# Altium schematic symbol library FPGA_Xilinx_Virtex5.SchLib: 41 symbols (part 10 of 17)
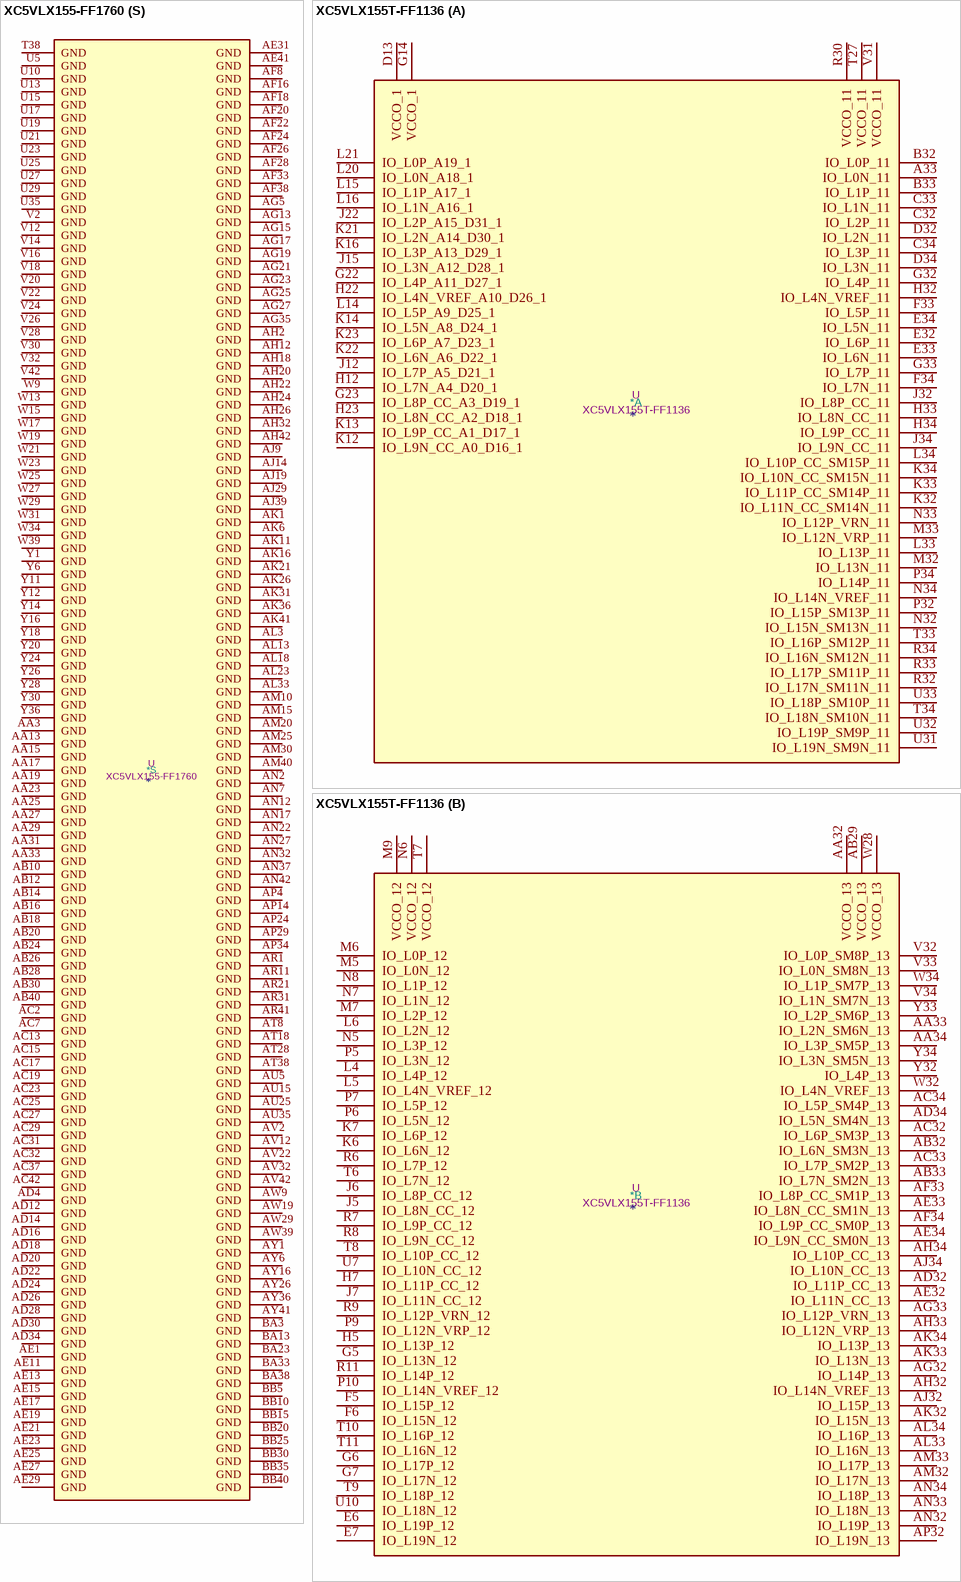
[diagram p146: symbols XC5VLX155-FF1760 to XC5VLX155T-FF1136]

## XC5VLX155-FF1760
designator *  value XC5VLX155-FF1760  Reference: U
Virtex 5 LX 155 XC5VLX155-FF1760; ki_keywords: FPGA; Description_: Virtex 5 LX 155 XC5VLX155-FF1760
part A pins: AA37 IO_L11N_CC_SM14N_11, AA39 IO_L9N_CC_11, AA40 IO_L9P_CC_11, AA41 IO_L19N_SM9N_11, AA42 IO_L19P_SM9P_11, E16 VCCO_1, F41 IO_L1P_11, F42 IO_L0P_11, G41 IO_L1N_11, G42 IO_L0N_11, H41 IO_L2P_11, J14 VCCO_1, J41 IO_L2N_11, J42 IO_L3P_11, K42 IO_L3N_11, L40 IO_L4P_11, L41 IO_L4N_VREF_11, L42 IO_L5P_11, M13 IO_L1P_A17_1, M29 IO_L6N_A6_D22_1, M41 IO_L5N_11, M42 IO_L6P_11, N13 IO_L1N_A16_1, N14 IO_L7P_A5_D21_1, N15 IO_L5P_A9_D25_1, N28 IO_L4P_A11_D27_1, N29 IO_L6P_A7_D23_1, N30 IO_L8N_CC_A2_D18_1, N40 IO_L7P_11, N41 IO_L6N_11, P13 IO_L7N_A4_D20_1, P15 IO_L5N_A8_D24_1, P16 IO_L9P_CC_A1_D17_1, P17 IO_L3P_A13_D29_1, P26 IO_L2N_A14_D30_1, P27 IO_L2P_A15_D31_1, P28 IO_L4N_VREF_A10_D26_1, P30 IO_L8P_CC_A3_D19_1, P40 IO_L7N_11, P41 IO_L13P_11, P42 IO_L12N_VRP_11, R15 IO_L9N_CC_A0_D16_1, R17 IO_L3N_A12_D28_1, R27 IO_L0N_A18_1, R28 IO_L0P_A19_1, R40 IO_L13N_11, R42 IO_L12P_VRN_11, T40 IO_L14P_11, T41 IO_L14N_VREF_11, T42 IO_L15P_SM13P_11, U40 VCCO_11, U41 IO_L15N_SM13N_11, U42 IO_L16P_SM12P_11, V37 VCCO_11, V40 IO_L17P_SM11P_11, V41 IO_L16N_SM12N_11, W40 IO_L8P_CC_11, W41 IO_L17N_SM11N_11, W42 IO_L18P_SM10P_11, Y37 IO_L11P_CC_SM14P_11, Y38 IO_L10N_CC_SM15N_11, Y39 IO_L10P_CC_SM15P_11, Y40 IO_L8N_CC_11, Y41 VCCO_11, Y42 IO_L18N_SM10N_11
part B pins: AA1 IO_L18P_12, AA2 IO_L18N_12, AA4 IO_L16P_12, AA5 IO_L17N_12, AA8 VCCO_12, AA38 VCCO_13, AB5 VCCO_12, AB35 VCCO_13, AB37 IO_L8P_CC_SM1P_13, AB38 IO_L8N_CC_SM1N_13, AB39 IO_L9P_CC_SM0P_13, AB41 IO_L0P_SM8P_13, AB42 IO_L0N_SM8N_13, AC38 IO_L9N_CC_SM0N_13, AC39 IO_L11N_CC_13, AC40 IO_L11P_CC_13, AC41 IO_L1P_SM7P_13, AD39 VCCO_13, AD40 IO_L10N_CC_13, AD41 IO_L2N_SM6N_13, AD42 IO_L1N_SM7N_13, AE40 IO_L10P_CC_13, AE42 IO_L2P_SM6P_13, AF40 IO_L4P_13, AF41 IO_L3P_SM5P_13, AF42 IO_L3N_SM5N_13, AG41 IO_L4N_VREF_13, AG42 IO_L5P_SM4P_13, AH40 IO_L7P_SM2P_13, AH41 IO_L5N_SM4N_13, AJ40 IO_L7N_SM2N_13, AJ41 IO_L6N_SM3N_13, AJ42 IO_L6P_SM3P_13, AK40 IO_L12P_VRN_13, AK42 IO_L13N_13, AL40 IO_L12N_VRP_13, AL41 IO_L13P_13, AL42 IO_L14P_13, AM41 IO_L15P_13, AM42 IO_L14N_VREF_13, AN41 IO_L15N_13, AP41 IO_L16N_13, AP42 IO_L16P_13, AR42 IO_L17P_13, AT41 IO_L18P_13, AT42 IO_L17N_13, AU41 IO_L18N_13, AU42 IO_L19P_13, AV41 IO_L19N_13, E2 IO_L0P_12, F1 IO_L1N_12, F2 IO_L0N_12, G1 IO_L3P_12, G2 IO_L1P_12, H1 IO_L3N_12, J1 IO_L2N_12, J2 IO_L2P_12, K2 IO_L5P_12, L1 IO_L5N_12, L2 IO_L4P_12, M1 IO_L6P_12, M2 IO_L4N_VREF_12, M3 IO_L7P_12, N1 IO_L6N_12, N3 IO_L7N_12, P1 IO_L9N_CC_12, P2 IO_L9P_CC_12, P3 IO_L8P_CC_12, R2 IO_L10P_CC_12, R3 IO_L8N_CC_12, T1 IO_L11N_CC_12, T2 IO_L10N_CC_12, U1 IO_L11P_CC_12, U2 IO_L12N_VRP_12, U3 IO_L12P_VRN_12, V1 IO_L15N_12, V3 IO_L13P_12, V4 IO_L13N_12, W1 IO_L15P_12, W2 IO_L14P_12, W3 IO_L14N_VREF_12, W4 VCCO_12, Y2 IO_L19P_12, Y3 IO_L19N_12, Y4 IO_L16N_12, Y5 IO_L17P_12
part C pins: AA34 IO_L17P_15, AA35 IO_L16P_15, AA36 IO_L16N_15, AB1 IO_L5N_14, AB2 IO_L5P_14, AB3 IO_L3P_14, AB4 IO_L3N_14, AB6 IO_L0P_14, AC1 IO_L6P_14, AC3 IO_L2P_14, AC4 IO_L1P_14, AC5 IO_L1N_14, AC6 IO_L0N_14, AD1 IO_L6N_14, AD2 IO_L4P_14, AD3 IO_L2N_14, AD9 VCCO_14, AE2 IO_L7P_14, AE3 IO_L4N_VREF_14, AE6 VCCO_14, AF1 IO_L7N_14, AF2 IO_L8P_CC_14, AG1 IO_L11N_CC_14, AG2 IO_L8N_CC_14, AG3 IO_L9P_CC_14, AG10 VCCO_14, AH1 IO_L11P_CC_14, AH3 IO_L9N_CC_14, AJ1 IO_L13N_14, AJ2 IO_L10P_CC_14, AJ3 IO_L10N_CC_14, AK2 IO_L13P_14, AK3 IO_L12N_VRP_14, AL1 IO_L15N_14, AL2 IO_L12P_VRN_14, AM1 IO_L15P_14, AM2 IO_L14N_VREF_14, AM3 IO_L14P_14, AN1 IO_L17N_14, AP1 IO_L17P_14, AP2 IO_L16N_14, AR2 IO_L16P_14, AT1 IO_L18P_14, AT2 IO_L18N_14, AU1 IO_L19N_14, AU2 IO_L19P_14, E39 IO_L3P_15, E40 IO_L3N_15, F39 IO_L2P_15, F40 IO_L2N_15, G38 IO_L1P_15, G39 IO_L1N_15, H38 IO_L0P_15, H39 IO_L0N_15, H40 IO_L10P_CC_15, J38 IO_L9N_CC_15, J40 IO_L10N_CC_15, K38 IO_L9P_CC_15, K39 IO_L11N_CC_15, K40 IO_L11P_CC_15, L39 IO_L8N_CC_15, M35 VCCO_15, M38 IO_L8P_CC_15, M39 IO_L7N_15, N38 IO_L6N_15, N39 IO_L7P_15, P37 IO_L5N_15, P38 IO_L6P_15, P39 VCCO_15, R36 VCCO_15, R37 IO_L5P_15, R38 IO_L4N_VREF_15, R39 IO_L4P_15, T37 IO_L13P_15, T39 IO_L14P_15, U37 IO_L12N_VRP_15, U38 IO_L13N_15, U39 IO_L14N_VREF_15, V38 IO_L12P_VRN_15, V39 IO_L15P_15, W35 IO_L18N_15, W36 IO_L19P_15, W37 IO_L19N_15, W38 IO_L15N_15, Y34 IO_L17N_15, Y35 IO_L18P_15
part D pins: AA6 IO_L15N_16, AA7 IO_L15P_16, AA9 IO_L16N_16, AA10 IO_L19N_16, AA11 IO_L19P_16, AB34 IO_L0P_17, AB36 IO_L1N_17, AC34 IO_L0N_17, AC35 IO_L1P_17, AC36 IO_L2P_17, AD35 IO_L2N_17, AD36 IO_L3P_17, AD37 IO_L3N_17, AD38 IO_L4N_VREF_17, AE36 VCCO_17, AE37 IO_L4P_17, AE38 IO_L5N_17, AE39 IO_L5P_17, AF37 IO_L7N_17, AF39 IO_L6P_17, AG37 IO_L7P_17, AG38 IO_L6N_17, AG39 IO_L12P_VRN_17, AG40 VCCO_17, AH37 VCCO_17, AH38 IO_L15N_17, AH39 IO_L12N_VRP_17, AJ37 IO_L15P_17, AJ38 IO_L13P_17, AK37 IO_L14N_VREF_17, AK38 IO_L14P_17, AK39 IO_L13N_17, AL37 IO_L19N_17, AL39 IO_L16P_17, AM37 IO_L19P_17, AM38 IO_L18N_17, AM39 IO_L16N_17, AN38 IO_L18P_17, AN39 IO_L17P_17, AN40 IO_L8P_CC_17, AP38 IO_L17N_17, AP40 IO_L8N_CC_17, AR39 IO_L11N_CC_17, AR40 IO_L9P_CC_17, AT39 IO_L11P_CC_17, AT40 IO_L9N_CC_17, AU39 IO_L10N_CC_17, AV40 IO_L10P_CC_17, E3 IO_L1P_16, E4 IO_L1N_16, F4 IO_L0N_16, G3 IO_L3N_16, G4 IO_L0P_16, H3 IO_L3P_16, H4 IO_L2P_16, J3 IO_L2N_16, K3 IO_L5P_16, K4 IO_L5N_16, L4 IO_L4N_VREF_16, L5 IO_L4P_16, M4 IO_L7N_16, N4 IO_L7P_16, N5 IO_L6P_16, P5 IO_L6N_16, R4 IO_L9N_CC_16, R5 IO_L9P_CC_16, R6 VCCO_16, T3 VCCO_16, T4 IO_L10N_CC_16, T5 IO_L8N_CC_16, T6 IO_L8P_CC_16, U4 IO_L10P_CC_16, U6 IO_L11P_CC_16, V5 IO_L11N_CC_16, V6 IO_L13N_16, V7 VCCO_16, W5 IO_L13P_16, W6 IO_L14N_VREF_16, W7 IO_L12P_VRN_16, W8 IO_L12N_VRP_16, W10 IO_L18N_16, W11 IO_L18P_16, Y7 IO_L14P_16, Y8 IO_L16P_16, Y9 IO_L17N_16, Y10 IO_L17P_16
part E pins: AA32 IO_L19N_19, AB7 IO_L4N_VREF_18, AB8 IO_L3P_18, AB9 IO_L3N_18, AB11 IO_L0P_18, AC8 IO_L4P_18, AC9 IO_L2N_18, AC10 IO_L2P_18, AC11 IO_L0N_18, AD5 IO_L5P_18, AD6 IO_L6P_18, AD7 IO_L7P_18, AD8 IO_L7N_18, AD10 IO_L1N_18, AD11 IO_L1P_18, AE4 IO_L8P_CC_18, AE5 IO_L5N_18, AE7 IO_L6N_18, AF3 VCCO_18, AF4 IO_L8N_CC_18, AF5 IO_L9N_CC_18, AF6 IO_L9P_CC_18, AG4 IO_L11N_CC_18, AG6 IO_L10P_CC_18, AH4 IO_L11P_CC_18, AH5 IO_L13N_18, AH6 IO_L10N_CC_18, AH7 VCCO_18, AJ4 VCCO_18, AJ5 IO_L12P_VRN_18, AJ6 IO_L13P_18, AK4 IO_L12N_VRP_18, AK5 IO_L15P_18, AL4 IO_L15N_18, AL5 IO_L14N_VREF_18, AL6 IO_L14P_18, AM4 IO_L17N_18, AM6 IO_L19P_18, AN3 IO_L16N_18, AN4 IO_L17P_18, AN5 IO_L19N_18, AP3 IO_L16P_18, AR3 IO_L18P_18, AR4 IO_L18N_18, D37 IO_L15N_19, E37 IO_L14N_VREF_19, E38 IO_L15P_19, F36 IO_L13P_19, F37 IO_L14P_19, G36 IO_L13N_19, G37 IO_L12N_VRP_19, H35 IO_L6P_19, H36 IO_L12P_VRN_19, H37 VCCO_19, J35 IO_L5N_19, J36 IO_L6N_19, J37 IO_L7N_19, K35 IO_L5P_19, K37 IO_L7P_19, K41 VCCO_19, L35 IO_L4N_VREF_19, L36 IO_L4P_19, L37 IO_L2P_19, L38 VCCO_19, M36 IO_L1N_19, M37 IO_L2N_19, N35 IO_L1P_19, N36 IO_L3P_19, P35 IO_L0N_19, P36 IO_L3N_19, R34 IO_L0P_19, R35 IO_L10P_CC_19, T34 IO_L9P_CC_19, T35 IO_L8N_CC_19, T36 IO_L10N_CC_19, U33 IO_L9N_CC_19, U34 IO_L8P_CC_19, U36 IO_L11P_CC_19, V33 IO_L17P_19, V34 IO_L16N_19, V35 IO_L16P_19, V36 IO_L11N_CC_19, W32 IO_L18N_19, W33 IO_L17N_19, Y32 IO_L19P_19, Y33 IO_L18P_19
part F pins: AH16 IO_L0P_CC_RS1_2, AH29 IO_L1N_CC_A24_2, AH30 IO_L1P_CC_A25_2, AJ13 IO_L6P_D7_2, AJ15 IO_L0N_CC_RS0_2, AJ16 IO_L2P_A23_2, AJ17 IO_L2N_A22_2, AJ26 IO_L9P_D1_FS1_2, AJ27 IO_L9N_D0_FS0_2, AJ28 IO_L7P_D5_2, AJ30 IO_L3N_A20_2, AK13 IO_L6N_D6_2, AK14 IO_L4P_FCS_B_2, AK15 IO_L4N_VREF_FOE_B_MOSI_2, AK29 IO_L7N_D4_2, AK30 IO_L3P_A21_2, AL14 IO_L8N_D2_FS2_2, AL15 IO_L8P_D3_2, AL29 IO_L5P_FWE_B_2, AL30 IO_L5N_CSO_B_2, AR26 VCCO_2, AV27 VCCO_2, E5 IO_L1N_20, F5 IO_L1P_20, F6 IO_L0N_20, G6 IO_L0P_20, G7 IO_L2P_20, H5 IO_L3N_20, H6 IO_L2N_20, J5 IO_L3P_20, J6 IO_L5N_20, J7 IO_L4P_20, K5 IO_L5P_20, K7 IO_L4N_VREF_20, L6 IO_L7N_20, L7 IO_L7P_20, L8 VCCO_20, M5 VCCO_20, M6 IO_L6N_20, M7 IO_L6P_20, M8 IO_L9P_CC_20, M9 IO_L9N_CC_20, N6 IO_L11P_CC_20, N8 IO_L10N_CC_20, N9 IO_L8N_CC_20, P6 IO_L11N_CC_20, P7 IO_L10P_CC_20, P8 IO_L8P_CC_20, P9 VCCO_20, R7 IO_L14P_20, R8 IO_L14N_VREF_20, R9 IO_L13P_20, R10 IO_L12N_VRP_20, T7 IO_L15N_20, T9 IO_L13N_20, T10 IO_L12P_VRN_20, T11 IO_L17N_20, U7 IO_L15P_20, U8 IO_L16P_20, U9 IO_L16N_20, U11 IO_L17P_20, V8 IO_L18N_20, V9 IO_L18P_20, V10 IO_L19N_20, V11 IO_L19P_20
part G pins: AB32 IO_L0N_21, AB33 IO_L0P_21, AC33 IO_L1P_21, AD32 IO_L1N_21, AD33 IO_L2P_21, AE8 IO_L1N_22, AE9 IO_L1P_22, AE10 IO_L0N_22, AE32 IO_L2N_21, AE33 IO_L3P_21, AE34 IO_L3N_21, AE35 IO_L8P_CC_21, AF7 IO_L3N_22, AF9 IO_L2N_22, AF10 IO_L2P_22, AF11 IO_L0P_22, AF12 IO_L8N_CC_22, AF34 IO_L8N_CC_21, AF35 IO_L9P_CC_21, AF36 IO_L9N_CC_21, AG7 IO_L3P_22, AG8 IO_L4N_VREF_22, AG9 IO_L7N_22, AG11 IO_L9N_CC_22, AG12 IO_L8P_CC_22, AG34 IO_L10N_CC_21, AG36 IO_L11N_CC_21, AH8 IO_L4P_22, AH9 IO_L6P_22, AH10 IO_L7P_22, AH11 IO_L9P_CC_22, AH34 IO_L10P_CC_21, AH35 IO_L11P_CC_21, AH36 IO_L16P_21, AJ7 IO_L5P_22, AJ8 IO_L6N_22, AJ34 VCCO_21, AJ35 IO_L17P_21, AJ36 IO_L16N_21, AK7 IO_L5N_22, AK8 IO_L10P_CC_22, AK9 IO_L11N_CC_22, AK34 IO_L19N_21, AK35 IO_L17N_21, AL7 IO_L10N_CC_22, AL8 VCCO_22, AL9 IO_L11P_CC_22, AL34 IO_L19P_21, AL35 IO_L18N_21, AL36 IO_L18P_21, AL38 VCCO_21, AM5 VCCO_22, AM7 IO_L12P_VRN_22, AM8 IO_L13N_22, AM34 IO_L15N_21, AM35 VCCO_21, AM36 IO_L14P_21, AN6 IO_L12N_VRP_22, AN8 IO_L13P_22, AN34 IO_L15P_21, AN35 IO_L14N_VREF_21, AN36 IO_L13N_21, AP5 IO_L14N_VREF_22, AP6 IO_L15N_22, AP7 IO_L15P_22, AP9 VCCO_22, AP35 IO_L13P_21, AP36 IO_L12N_VRP_21, AP37 IO_L12P_VRN_21, AR5 IO_L14P_22, AR37 IO_L7P_21, AR38 IO_L6N_21, AT4 IO_L17N_22, AT5 IO_L18P_22, AT6 IO_L18N_22, AT36 IO_L7N_21, AT37 IO_L6P_21, AU3 IO_L19N_22, AU4 IO_L17P_22, AU37 IO_L5N_21, AU38 IO_L5P_21, AV3 IO_L19P_22, AV4 IO_L16N_22, AV5 IO_L16P_22, AV38 IO_L4N_VREF_21, AV39 IO_L4P_21
part H pins: D39 VCCO_23, E7 IO_L18P_24, E8 IO_L18N_24, E9 IO_L14N_VREF_24, E10 IO_L14P_24, E12 IO_L10P_CC_24, E13 IO_L10N_CC_24, E32 IO_L11P_CC_23, E33 IO_L11N_CC_23, E34 IO_L9P_CC_23, E35 IO_L8N_CC_23, E36 VCCO_23, F3 VCCO_24, F7 IO_L19P_24, F9 IO_L15P_24, F10 IO_L12P_VRN_24, F11 IO_L12N_VRP_24, F12 IO_L11P_CC_24, F31 IO_L10P_CC_23, F32 IO_L10N_CC_23, F34 IO_L9N_CC_23, F35 IO_L8P_CC_23, G8 IO_L19N_24, G9 IO_L15N_24, G11 IO_L11N_CC_24, G12 IO_L9N_CC_24, G13 IO_L8N_CC_24, G31 IO_L6N_23, G32 IO_L6P_23, G33 IO_L5P_23, G34 IO_L4N_VREF_23, G40 VCCO_23, H7 VCCO_24, H8 IO_L16P_24, H9 IO_L13P_24, H10 IO_L13N_24, H11 IO_L9P_CC_24, H13 IO_L8P_CC_24, H31 IO_L7P_23, H33 IO_L5N_23, H34 IO_L4P_23, J4 VCCO_24, J8 IO_L16N_24, J10 IO_L7P_24, J11 IO_L7N_24, J12 IO_L6N_24, J31 IO_L7N_23, J32 IO_L14N_VREF_23, J33 IO_L13N_23, K8 IO_L17P_24, K9 IO_L17N_24, K10 IO_L4N_VREF_24, K12 IO_L6P_24, K32 IO_L14P_23, K33 IO_L13P_23, K34 IO_L12N_VRP_23, L9 IO_L4P_24, L10 IO_L5N_24, L11 IO_L5P_24, L12 IO_L2N_24, L31 IO_L15N_23, L32 IO_L15P_23, L34 IO_L12P_VRN_23, M11 IO_L3N_24, M12 IO_L2P_24, M31 IO_L2N_23, M32 IO_L2P_23, M33 IO_L1N_23, M34 IO_L1P_23, N10 IO_L1N_24, N11 IO_L3P_24, N31 IO_L3P_23, N33 IO_L0P_23, N34 IO_L0N_23, P10 IO_L1P_24, P11 IO_L0N_24, P12 IO_L0P_24, P31 IO_L3N_23, P32 IO_L16N_23, P33 IO_L16P_23, R32 IO_L17N_23, R33 IO_L17P_23, T31 IO_L19N_23, T32 IO_L18P_23, U31 IO_L19P_23, U32 IO_L18N_23
part I pins: AF31 IO_L0N_25, AF32 IO_L1P_25, AG31 IO_L0P_25, AG32 IO_L2N_25, AG33 IO_L1N_25, AH31 IO_L3P_25, AH33 IO_L2P_25, AJ10 IO_L18P_26, AJ11 IO_L18N_26, AJ12 IO_L19P_26, AJ31 IO_L3N_25, AJ32 IO_L17P_25, AJ33 IO_L16N_25, AK10 IO_L17P_26, AK12 IO_L19N_26, AK32 IO_L17N_25, AK33 IO_L16P_25, AL10 IO_L17N_26, AL11 IO_L16P_26, AL12 IO_L16N_26, AL31 IO_L19P_25, AL32 IO_L18P_25, AM9 IO_L13P_26, AM11 IO_L15N_26, AM12 IO_L15P_26, AM31 IO_L19N_25, AM32 IO_L18N_25, AM33 IO_L15N_25, AN9 IO_L12P_VRN_26, AN10 IO_L13N_26, AN11 IO_L14P_26, AN31 IO_L12N_VRP_25, AN33 IO_L15P_25, AP8 IO_L12N_VRP_26, AP10 IO_L14N_VREF_26, AP11 IO_L11P_CC_26, AP12 IO_L11N_CC_26, AP31 IO_L12P_VRN_25, AP32 IO_L13N_25, AP33 IO_L14N_VREF_25, AP39 VCCO_25, AR6 VCCO_26, AR7 IO_L3P_26, AR8 IO_L3N_26, AR9 IO_L9P_CC_26, AR10 IO_L9N_CC_26, AR12 IO_L10P_CC_26, AR32 IO_L13P_25, AR33 IO_L14P_25, AR34 IO_L7N_25, AR35 IO_L7P_25, AR36 VCCO_25, AT3 VCCO_26, AT7 IO_L2P_26, AT9 IO_L4N_VREF_26, AT10 IO_L8P_CC_26, AT11 IO_L8N_CC_26, AT12 IO_L10N_CC_26, AT31 IO_L11N_CC_25, AT32 IO_L11P_CC_25, AT34 IO_L6N_25, AT35 IO_L5N_25, AU6 IO_L2N_26, AU7 IO_L0N_26, AU8 IO_L1P_26, AU9 IO_L4P_26, AU11 IO_L7N_26, AU12 IO_L6N_26, AU13 IO_L6P_26, AU31 IO_L10N_CC_25, AU32 IO_L8P_CC_25, AU33 IO_L8N_CC_25, AU34 IO_L6P_25, AU36 IO_L5P_25, AU40 VCCO_25, AV6 IO_L0P_26, AV8 IO_L1N_26, AV9 IO_L5N_26, AV10 IO_L5P_26, AV11 IO_L7P_26, AV31 IO_L10P_CC_25, AV33 IO_L9P_CC_25, AV34 IO_L9N_CC_25, AV35 IO_L4P_25, AV36 IO_L4N_VREF_25, AW4 VCCO_26
part J pins: B35 VCCO_27, C32 VCCO_27, D9 VCCO_28, E6 VCCO_28, F33 VCCO_27, G10 VCCO_28
part K pins: AT33 VCCO_29, AV37 VCCO_29, AW34 VCCO_29, E26 VCCO_3, J13 IO_L2N_GC_VRP_3, J24 VCCO_3, J30 IO_L7P_GC_3, K13 IO_L2P_GC_VRN_3, K14 IO_L0N_CC_GC_3, K15 IO_L0P_CC_GC_3, K28 IO_L5P_GC_3, K29 IO_L5N_GC_3, K30 IO_L7N_GC_3, L14 IO_L6N_GC_3, L15 IO_L4P_GC_3, L16 IO_L4N_GC_VREF_3, L27 IO_L3P_GC_3, L29 IO_L9P_GC_3, L30 IO_L9N_GC_3, M14 IO_L6P_GC_3, M16 IO_L8N_GC_3, M27 IO_L1P_CC_GC_3, M28 IO_L3N_GC_3, N16 IO_L8P_GC_3, N26 IO_L1N_CC_GC_3
part L pins: AU10 VCCO_30, AV7 VCCO_30, BA8 VCCO_30, D29 VCCO_31, G30 VCCO_31, H27 VCCO_31
part M pins: AU30 VCCO_33, AY31 VCCO_33, B15 VCCO_32, BA28 VCCO_33, C12 VCCO_32, F13 VCCO_32
part N pins: AK17 IO_L1N_GC_D12_4, AK27 IO_L0N_GC_D14_4, AK28 IO_L0P_GC_D15_4, AL16 IO_L1P_GC_D13_4, AL27 IO_L8P_CC_GC_4, AM13 IO_L5P_GC_4, AM14 IO_L5N_GC_4, AM16 IO_L3N_GC_D8_4, AM27 IO_L8N_CC_GC_4, AM28 IO_L6P_GC_4, AM29 IO_L2P_GC_D11_4, AN13 IO_L9N_CC_GC_4, AN14 IO_L7N_GC_VRP_4, AN15 IO_L7P_GC_VRN_4, AN16 IO_L3P_GC_D9_4, AN28 IO_L6N_GC_4, AN29 IO_L4N_GC_VREF_4, AN30 IO_L2N_GC_D10_4, AP13 IO_L9P_CC_GC_4, AP30 IO_L4P_GC_4, AT13 VCCO_34, AV17 VCCO_4, AW14 VCCO_34, AY11 VCCO_34, BA18 VCCO_4
part O pins: AJ18 IO_L16N_6, AJ25 IO_L17P_6, AK18 IO_L1P_6, AK19 IO_L16P_6, AK24 IO_L17N_6, AK25 IO_L19N_6, AL17 IO_L1N_6, AL19 IO_L18P_6, AL24 IO_L19P_6, AL25 IO_L15P_6, AL26 IO_L0P_6, AM17 IO_L3N_6, AM18 IO_L3P_6, AM19 IO_L18N_6, AM24 IO_L15N_6, AM26 IO_L0N_6, AN18 IO_L5P_6, AN19 IO_L7P_6, AN25 IO_L4N_VREF_6, AN26 IO_L4P_6, AP15 IO_L9N_CC_6, AP16 IO_L12P_VRN_6, AP17 IO_L5N_6, AP18 IO_L7N_6, AP26 IO_L6P_6, AP27 IO_L2N_6, AP28 IO_L2P_6, AR13 IO_L10P_CC_6, AR14 IO_L10N_CC_6, AR15 IO_L9P_CC_6, AR17 IO_L12N_VRP_6, AR27 IO_L6N_6, AR28 IO_L8P_CC_6, AR29 IO_L8N_CC_6, AR30 IO_L11N_CC_6, AT14 IO_L14P_6, AT15 IO_L14N_VREF_6, AT23 VCCO_6, AT29 IO_L13N_6, AT30 IO_L11P_CC_6, AU29 IO_L13P_6, AW24 VCCO_6, AY21 VCCO_6, B25 VCCO_5, C22 VCCO_5, F23 VCCO_5, G14 IO_L1P_5, G16 IO_L3N_5, G27 IO_L15P_5, G28 IO_L17P_5, G29 IO_L17N_5, H14 IO_L1N_5, H15 IO_L7P_5, H16 IO_L3P_5, H28 IO_L15N_5, H29 IO_L19P_5, H30 IO_L19N_5, J15 IO_L7N_5, J16 IO_L5N_5, J17 IO_L5P_5, J26 IO_L11P_CC_5, J27 IO_L11N_CC_5, J28 IO_L13P_5, K17 IO_L12P_VRN_5, K18 IO_L12N_VRP_5, K19 IO_L9P_CC_5, K24 IO_L4N_VREF_5, K25 IO_L4P_5, K27 IO_L13N_5, L17 IO_L14N_VREF_5, L19 IO_L9N_CC_5, L24 IO_L2N_5, L25 IO_L2P_5, L26 IO_L6N_5, M17 IO_L14P_5, M18 IO_L10P_CC_5, M19 IO_L10N_CC_5, M24 IO_L0P_5, M26 IO_L6P_5, N18 IO_L16P_5, N19 IO_L16N_5, N24 IO_L0N_5, N25 IO_L8N_CC_5, P18 IO_L18N_5, P25 IO_L8P_CC_5, R18 IO_L18P_5
part P pins: AP19 VCCO_8, AR16 VCCO_8, AU20 VCCO_8, D19 VCCO_7, G20 VCCO_7, H17 VCCO_7
part Q pins: AA21 VREFN_0, AA22 VP_0, AB21 VN_0, AB22 VREFP_0, AC21 DXN_0, AC22 DXP_0, AE30 TCK_0, AF14 TMS_0, AF15 CCLK_0, AF30 M1_0, AG14 TDI_0, AG29 M0_0, AG30 VCCO_0, AH14 TDO_0, AH15 D_OUT_BUSY_0, AH28 M2_0, AL28 VCCO_0, R14 D_IN_0, R30 RDWR_B_0, T14 HSWAPEN_0, T15 DONE_0, T29 PROGRAM_B_0, T30 CS_B_0, U14 INIT_B_0
part R pins: A3 GND, A8 GND, A13 GND, A18 GND, A23 GND, A28 GND, A33 GND, A38 GND, AA12 VCCAUX, AA14 VCCINT, AA16 VCCINT, AA18 VCCINT, AA20 VCCINT, AA24 VCCINT, AA26 VCCINT, AA28 VCCINT, AA30 VCCAUX, AB13 VCCINT, AB15 VCCINT, AB17 VCCINT, AB19 VCCINT, AB23 VCCINT, AB25 VCCINT, AB27 VCCINT, AB29 VCCAUX, AB31 VCCAUX, AC12 VCCAUX, AC14 VCCINT, AC16 VCCINT, AC18 VCCINT, AC20 VCCINT, AC24 VCCINT, AC26 VCCINT, AC28 VCCINT, AC30 VCCAUX, AD13 VCCAUX, AD15 VCCINT, AD17 VCCINT, AD19 VCCINT, AD21 VCCINT, AD23 VCCINT, AD25 VCCINT, AD27 VCCINT, AD29 VCCAUX, AE12 VCCAUX, AE14 VCCINT, AE16 VCCINT, AE18 VCCINT, AE20 VCCINT, AE22 VCCINT, AE24 VCCINT, AE26 VCCINT, AE28 VCCINT, AF13 VCCAUX, AF17 VCCINT, AF19 VCCINT, AF21 VCCINT, AF23 VCCINT, AF25 VCCINT, AF27 VCCINT, AF29 VCCAUX, AG16 VCCINT, AG18 VCCINT, AG20 VCCINT, AG22 VCCINT, AG24 VCCINT, AG26 VCCINT, AG28 VCCINT, AH13 VCCAUX, AH17 VCCINT, AH19 VCCINT, AH21 VCCINT, AH23 VCCINT, AH25 VCCINT, AH27 VCCINT, AJ24 VCCINT, B5 GND, B10 GND, B20 GND, B30 GND, B40 GND, C2 GND, C7 GND, C17 GND, C27 GND, C37 GND, C42 GND, D4 GND, D14 GND, D24 GND, D34 GND, E1 GND, E11 GND, E21 GND, E31 GND, E41 GND, F8 GND, F18 GND, F28 GND, F38 GND, G5 GND, G15 GND, G25 GND, G35 GND, H2 GND, H12 GND, H22 GND, H32 GND, H42 GND, J9 GND, J19 GND, J29 GND, J34 GND, J39 GND, K1 GND, K6 GND, K11 GND, K16 GND, K21 GND, K26 GND, K31 GND, K36 GND, L3 GND, L13 GND, L18 GND, L23 GND, L28 GND, L33 GND, M10 GND, M15 GND, M20 GND, M25 GND, M30 GND, M40 GND, N2 GND, N7 GND, N12 GND, N17 GND, N27 GND, N32 GND, N37 GND, N42 GND, P4 GND, P14 GND, P19 GND, P24 GND, P29 GND, P34 GND, R1 GND, R11 GND, R12 VCCAUX, R13 GND, R16 GND, R19 GND, R20 VCCINT, R21 GND, R22 VCCINT, R23 GND, R24 VCCINT, R25 GND, R26 VCCINT, R29 VBATT_0, R31 GND, R41 GND, T8 GND, T12 GND, T13 VCCAUX, T16 GND, T17 VCCINT, T18 GND, T19 VCCINT, T20 GND, T21 VCCINT, T22 GND, T23 VCCINT, T24 GND, T25 VCCINT, T26 GND, T27 VCCINT, T28 GND, T33 GND, U12 VCCAUX, U16 VCCINT, U18 VCCINT, U20 VCCINT, U22 VCCINT, U24 VCCINT, U26 VCCINT, U28 VCCINT, U30 VCCAUX, V13 VCCINT, V15 VCCINT, V17 VCCINT, V19 VCCINT, V21 VCCINT, V23 VCCINT, V25 VCCINT, V27 VCCINT, V29 VCCAUX, W12 VCCAUX, W14 VCCINT, W16 VCCINT, W18 VCCINT, W20 VCCINT, W22 VCCINT, W24 VCCINT, W26 VCCINT, W28 VCCINT, W30 VCCAUX, Y13 VCCINT, Y15 VCCINT, Y17 VCCINT, Y19 VCCINT, Y21 AVSS_0, Y22 AVDD_0, Y23 VCCINT, Y25 VCCINT, Y27 VCCINT, Y29 VCCINT, Y31 VCCAUX
part S pins: AA3 GND, AA13 GND, AA15 GND, AA17 GND, AA19 GND, AA23 GND, AA25 GND, AA27 GND, AA29 GND, AA31 GND, AA33 GND, AB10 GND, AB12 GND, AB14 GND, AB16 GND, AB18 GND, AB20 GND, AB24 GND, AB26 GND, AB28 GND, AB30 GND, AB40 GND, AC2 GND, AC7 GND, AC13 GND, AC15 GND, AC17 GND, AC19 GND, AC23 GND, AC25 GND, AC27 GND, AC29 GND, AC31 GND, AC32 GND, AC37 GND, AC42 GND, AD4 GND, AD12 GND, AD14 GND, AD16 GND, AD18 GND, AD20 GND, AD22 GND, AD24 GND, AD26 GND, AD28 GND, AD30 GND, AD34 GND, AE1 GND, AE11 GND, AE13 GND, AE15 GND, AE17 GND, AE19 GND, AE21 GND, AE23 GND, AE25 GND, AE27 GND, AE29 GND, AE31 GND, AE41 GND, AF8 GND, AF16 GND, AF18 GND, AF20 GND, AF22 GND, AF24 GND, AF26 GND, AF28 GND, AF33 GND, AF38 GND, AG5 GND, AG13 GND, AG15 GND, AG17 GND, AG19 GND, AG21 GND, AG23 GND, AG25 GND, AG27 GND, AG35 GND, AH2 GND, AH12 GND, AH18 GND, AH20 GND, AH22 GND, AH24 GND, AH26 GND, AH32 GND, AH42 GND, AJ9 GND, AJ14 GND, AJ19 GND, AJ29 GND, AJ39 GND, AK1 GND, AK6 GND, AK11 GND, AK16 GND, AK21 GND, AK26 GND, AK31 GND, AK36 GND, AK41 GND, AL3 GND, AL13 GND, AL18 GND, AL23 GND, AL33 GND, AM10 GND, AM15 GND, AM20 GND, AM25 GND, AM30 GND, AM40 GND, AN2 GND, AN7 GND, AN12 GND, AN17 GND, AN22 GND, AN27 GND, AN32 GND, AN37 GND, AN42 GND, AP4 GND, AP14 GND, AP24 GND, AP29 GND, AP34 GND, AR1 GND, AR11 GND, AR21 GND, AR31 GND, AR41 GND, AT8 GND, AT18 GND, AT28 GND, AT38 GND, AU5 GND, AU15 GND, AU25 GND, AU35 GND, AV2 GND, AV12 GND, AV22 GND, AV32 GND, AV42 GND, AW9 GND, AW19 GND, AW29 GND, AW39 GND, AY1 GND, AY6 GND, AY16 GND, AY26 GND, AY36 GND, AY41 GND, BA3 GND, BA13 GND, BA23 GND, BA33 GND, BA38 GND, BB5 GND, BB10 GND, BB15 GND, BB20 GND, BB25 GND, BB30 GND, BB35 GND, BB40 GND, T38 GND, U5 GND, U10 GND, U13 GND, U15 GND, U17 GND, U19 GND, U21 GND, U23 GND, U25 GND, U27 GND, U29 GND, U35 GND, V2 GND, V12 GND, V14 GND, V16 GND, V18 GND, V20 GND, V22 GND, V24 GND, V26 GND, V28 GND, V30 GND, V32 GND, V42 GND, W9 GND, W13 GND, W15 GND, W17 GND, W19 GND, W21 GND, W23 GND, W25 GND, W27 GND, W29 GND, W31 GND, W34 GND, W39 GND, Y1 GND, Y6 GND, Y11 GND, Y12 GND, Y14 GND, Y16 GND, Y18 GND, Y20 GND, Y24 GND, Y26 GND, Y28 GND, Y30 GND, Y36 GND

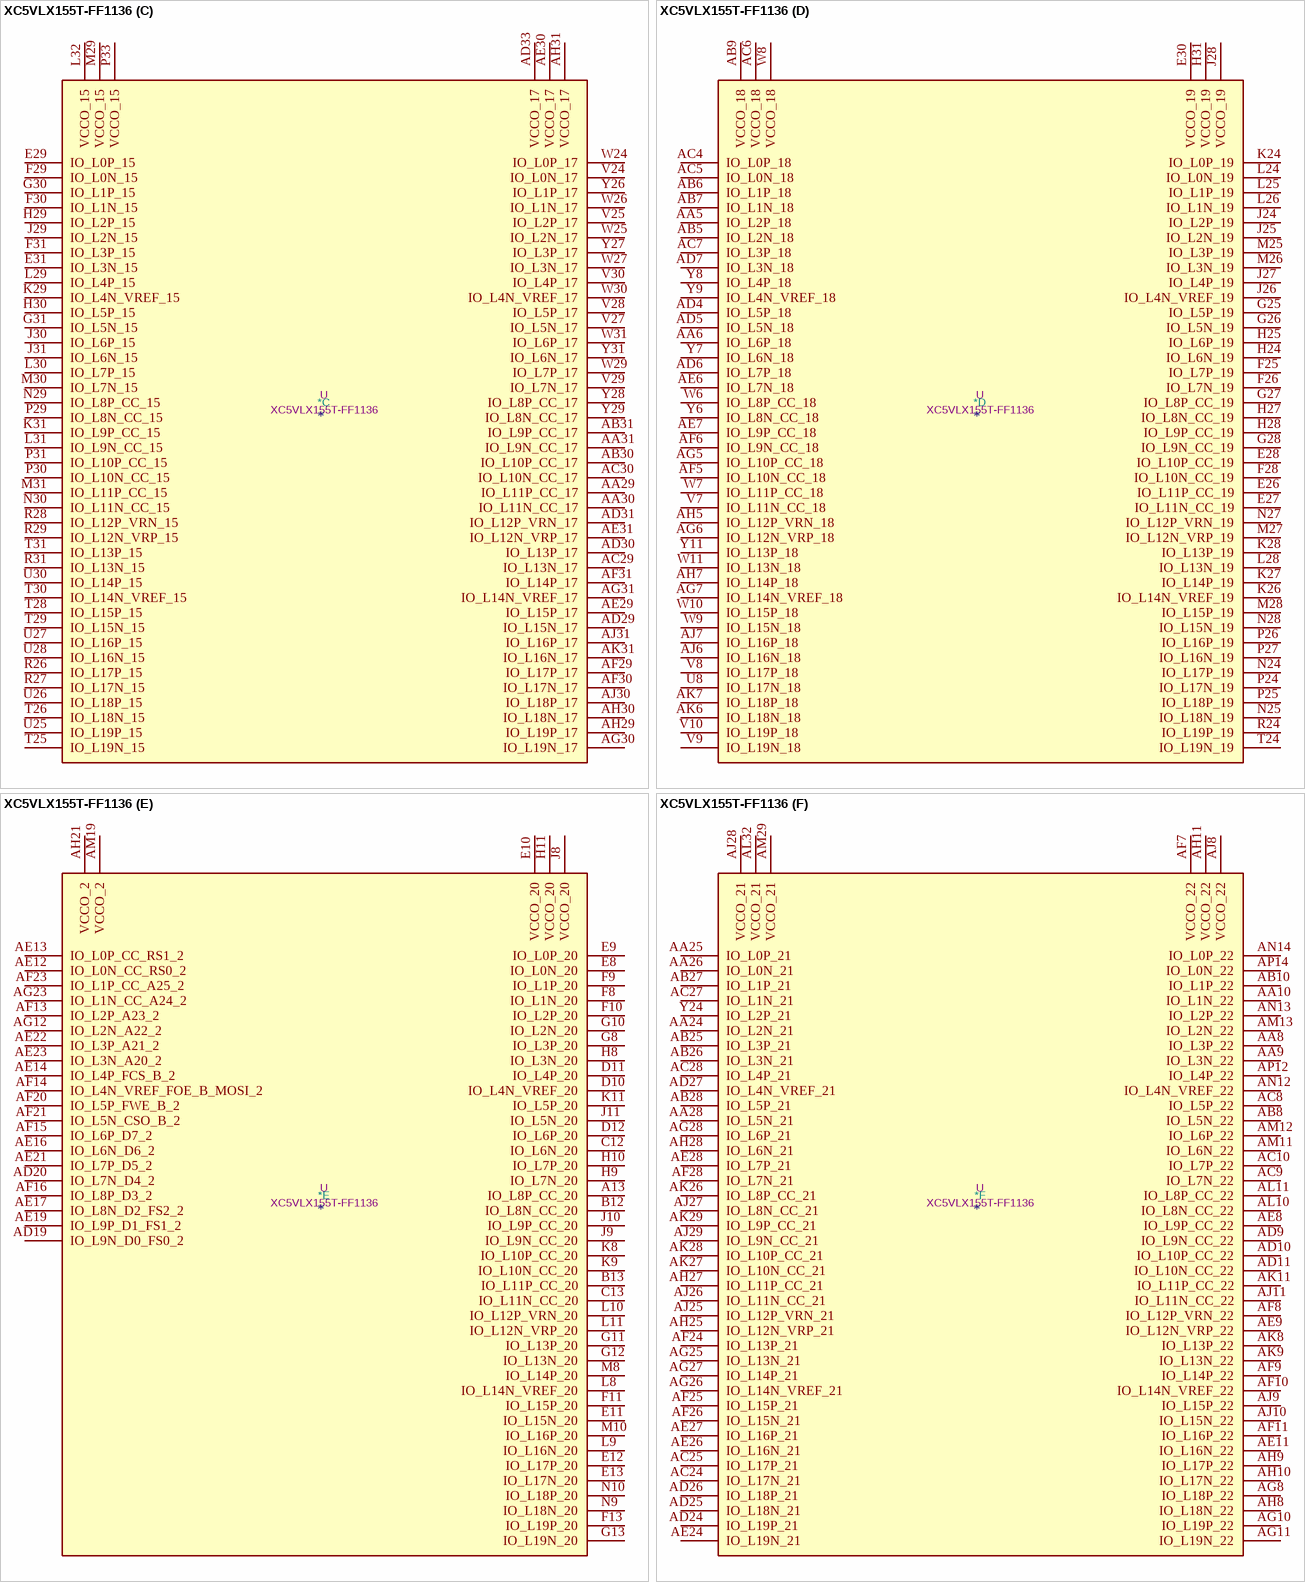
[diagram p82: symbol XC5VLX155T-FF1136]

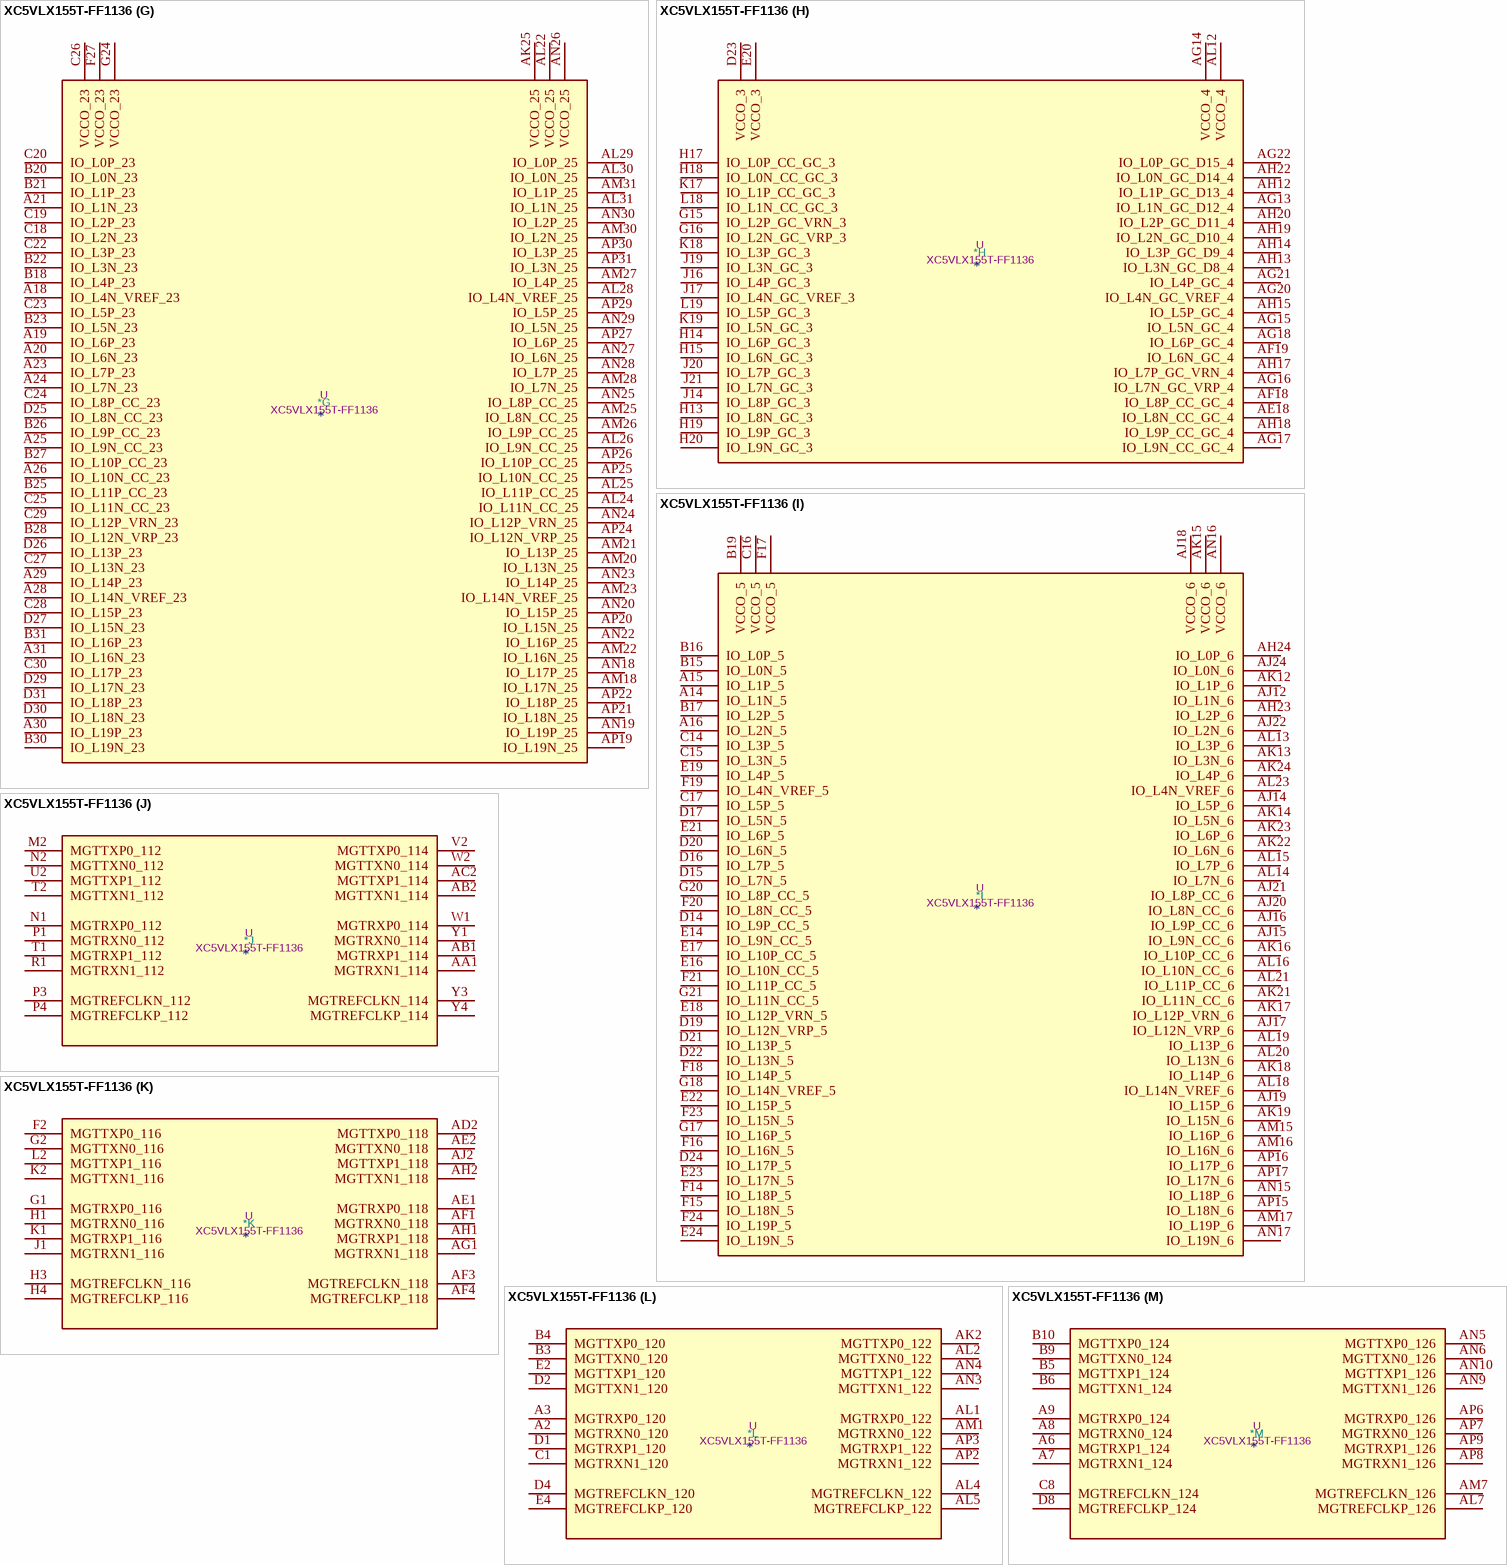
[diagram p83: symbol XC5VLX155T-FF1136]

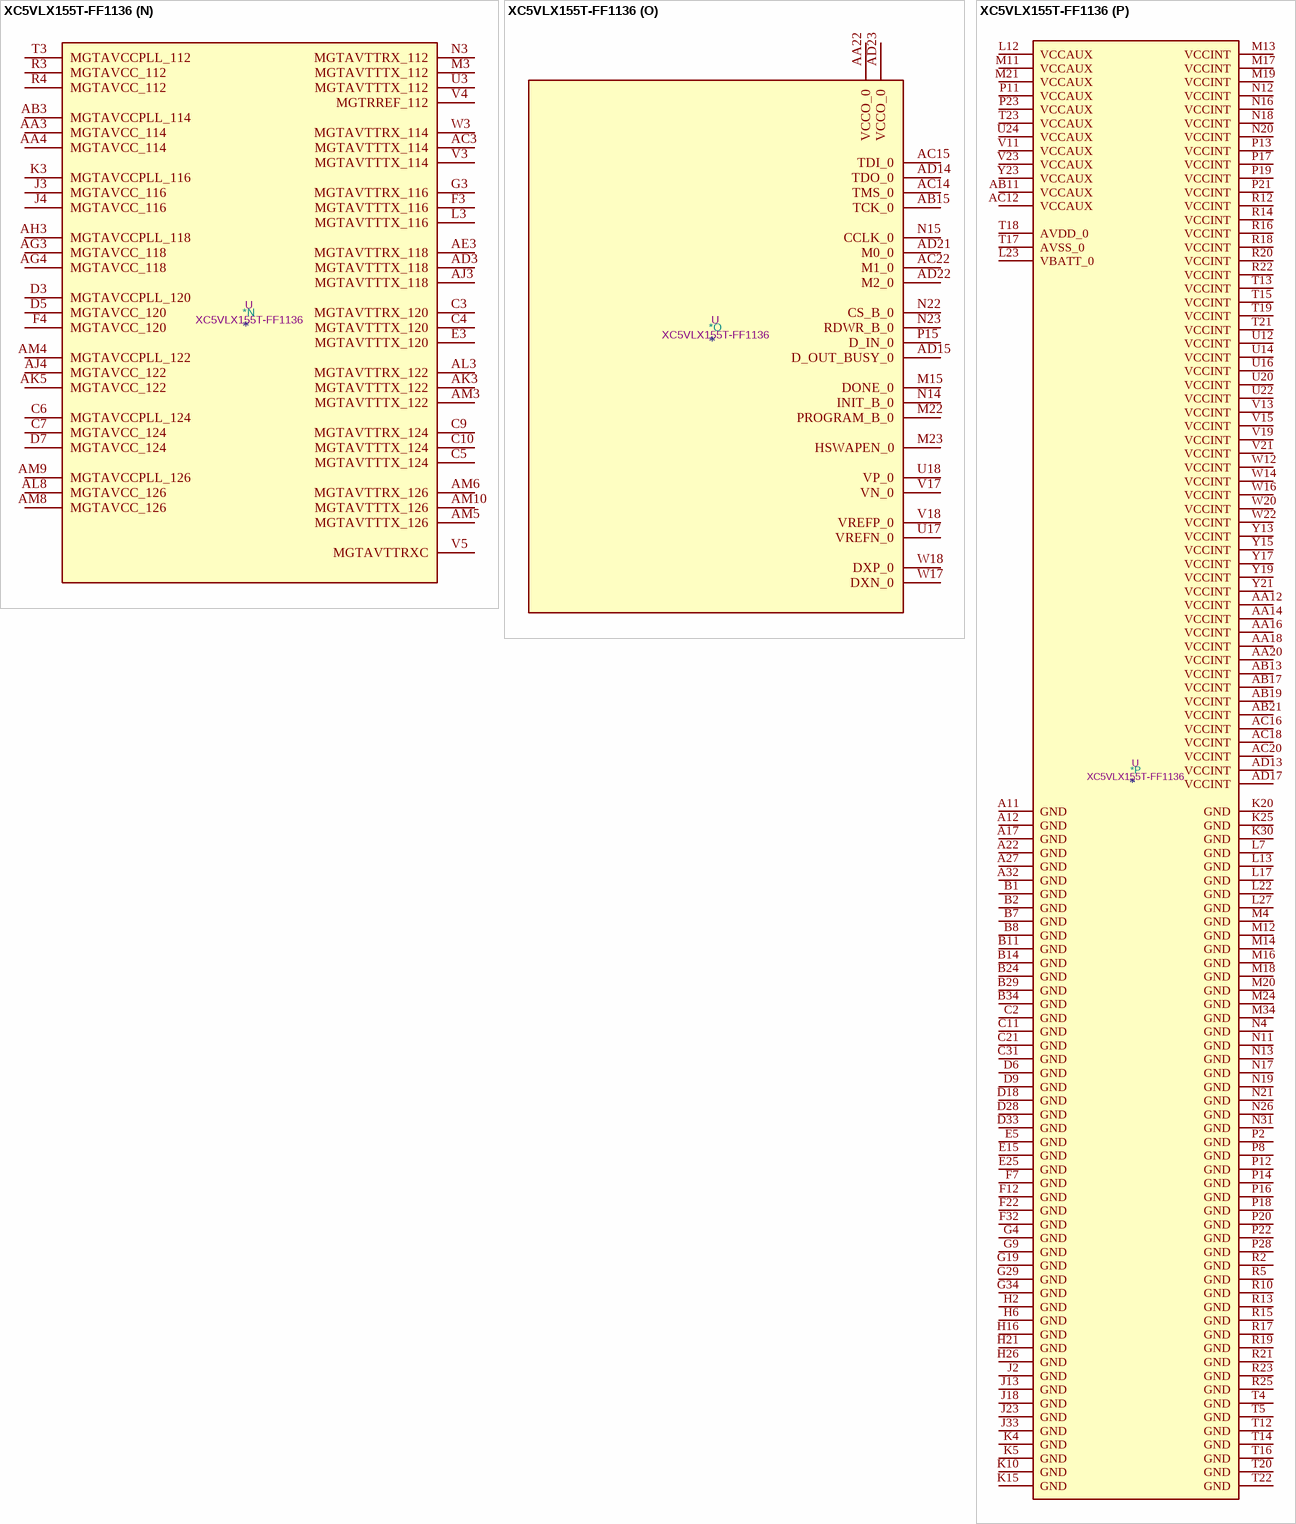
[diagram p84: symbol XC5VLX155T-FF1136]

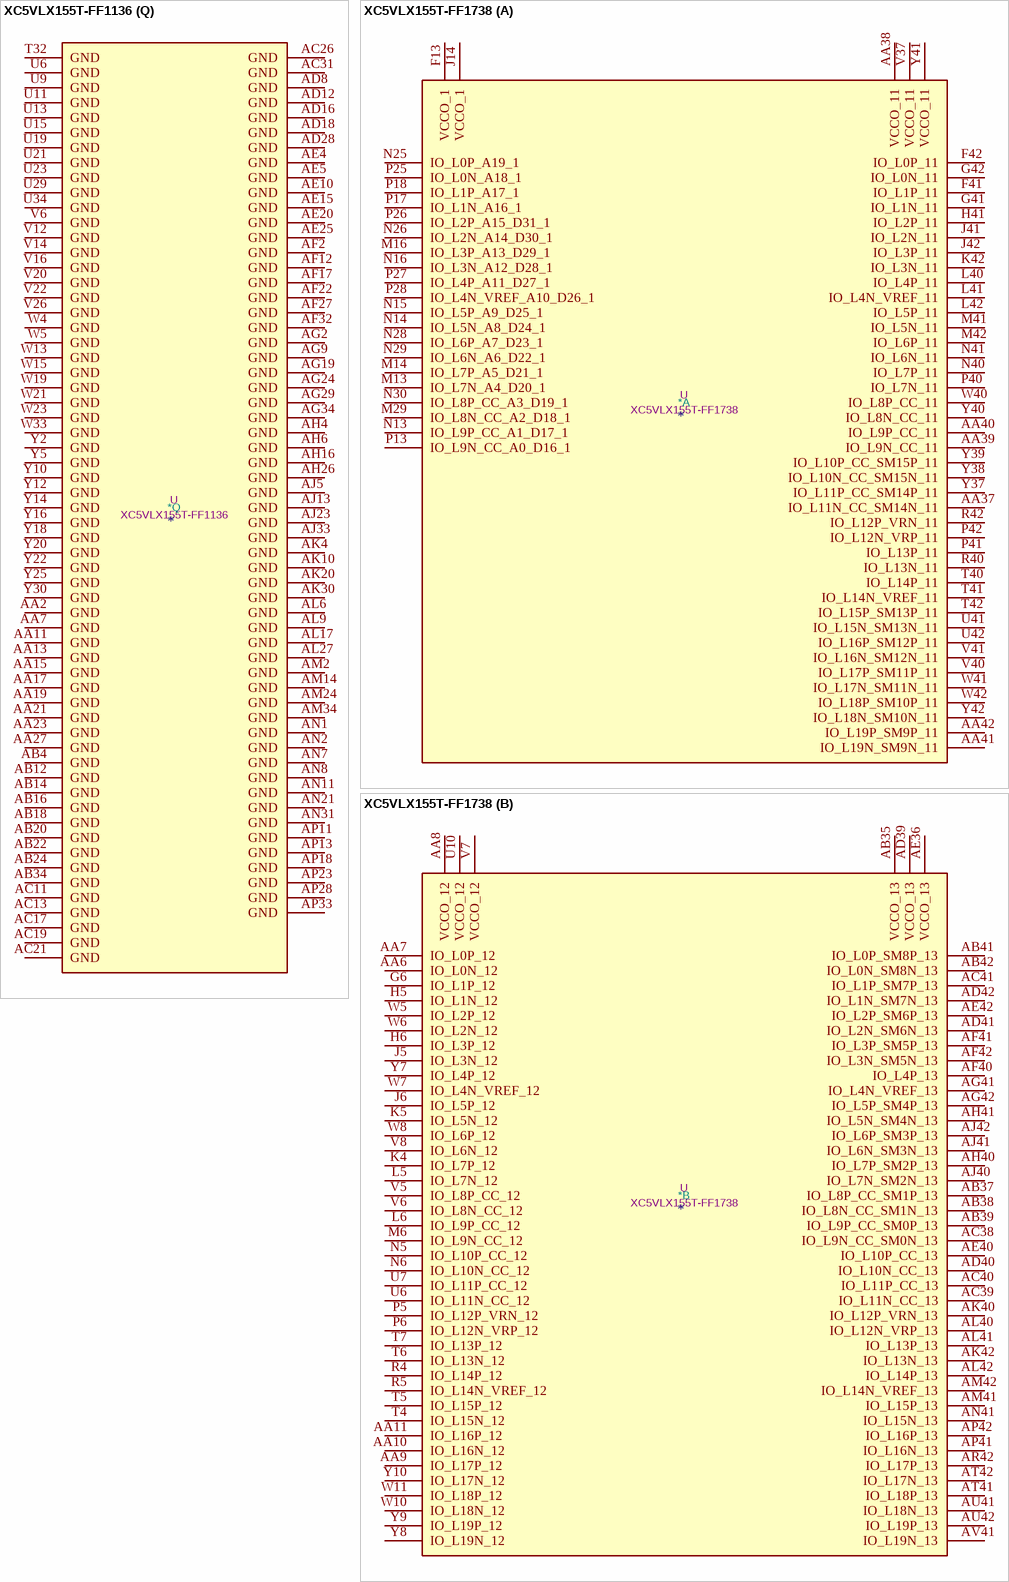
[diagram p85: symbols XC5VLX155T-FF1136 to XC5VLX155T-FF1738]

## XC5VLX155T-FF1136
designator *  value XC5VLX155T-FF1136  Reference: U
Virtex 5 LXT 155 XC5VLX155T-FF1136; ki_keywords: FPGA; Description_: Virtex 5 LXT 155 XC5VLX155T-FF1136
part A pins: A33 IO_L0N_11, B32 IO_L0P_11, B33 IO_L1P_11, C32 IO_L2P_11, C33 IO_L1N_11, C34 IO_L3P_11, D13 VCCO_1, D32 IO_L2N_11, D34 IO_L3N_11, E32 IO_L6P_11, E33 IO_L6N_11, E34 IO_L5N_11, F33 IO_L5P_11, F34 IO_L7N_11, G14 VCCO_1, G22 IO_L4P_A11_D27_1, G23 IO_L8P_CC_A3_D19_1, G32 IO_L4P_11, G33 IO_L7P_11, H12 IO_L7N_A4_D20_1, H22 IO_L4N_VREF_A10_D26_1, H23 IO_L8N_CC_A2_D18_1, H32 IO_L4N_VREF_11, H33 IO_L8N_CC_11, H34 IO_L9P_CC_11, J12 IO_L7P_A5_D21_1, J15 IO_L3N_A12_D28_1, J22 IO_L2P_A15_D31_1, J32 IO_L8P_CC_11, J34 IO_L9N_CC_11, K12 IO_L9N_CC_A0_D16_1, K13 IO_L9P_CC_A1_D17_1, K14 IO_L5N_A8_D24_1, K16 IO_L3P_A13_D29_1, K21 IO_L2N_A14_D30_1, K22 IO_L6N_A6_D22_1, K23 IO_L6P_A7_D23_1, K32 IO_L11N_CC_SM14N_11, K33 IO_L11P_CC_SM14P_11, K34 IO_L10N_CC_SM15N_11, L14 IO_L5P_A9_D25_1, L15 IO_L1P_A17_1, L16 IO_L1N_A16_1, L20 IO_L0N_A18_1, L21 IO_L0P_A19_1, L33 IO_L13P_11, L34 IO_L10P_CC_SM15P_11, M32 IO_L13N_11, M33 IO_L12N_VRP_11, N32 IO_L15N_SM13N_11, N33 IO_L12P_VRN_11, N34 IO_L14N_VREF_11, P32 IO_L15P_SM13P_11, P34 IO_L14P_11, R30 VCCO_11, R32 IO_L17N_SM11N_11, R33 IO_L17P_SM11P_11, R34 IO_L16N_SM12N_11, T27 VCCO_11, T33 IO_L16P_SM12P_11, T34 IO_L18N_SM10N_11, U31 IO_L19N_SM9N_11, U32 IO_L19P_SM9P_11, U33 IO_L18P_SM10P_11, V31 VCCO_11
part B pins: AA32 VCCO_13, AA33 IO_L2N_SM6N_13, AA34 IO_L3P_SM5P_13, AB29 VCCO_13, AB32 IO_L6N_SM3N_13, AB33 IO_L7N_SM2N_13, AC32 IO_L6P_SM3P_13, AC33 IO_L7P_SM2P_13, AC34 IO_L5P_SM4P_13, AD32 IO_L11P_CC_13, AD34 IO_L5N_SM4N_13, AE32 IO_L11N_CC_13, AE33 IO_L8N_CC_SM1N_13, AE34 IO_L9N_CC_SM0N_13, AF33 IO_L8P_CC_SM1P_13, AF34 IO_L9P_CC_SM0P_13, AG32 IO_L14P_13, AG33 IO_L12P_VRN_13, AH32 IO_L14N_VREF_13, AH33 IO_L12N_VRP_13, AH34 IO_L10P_CC_13, AJ32 IO_L15P_13, AJ34 IO_L10N_CC_13, AK32 IO_L15N_13, AK33 IO_L13N_13, AK34 IO_L13P_13, AL33 IO_L16N_13, AL34 IO_L16P_13, AM32 IO_L17N_13, AM33 IO_L17P_13, AN32 IO_L19P_13, AN33 IO_L18N_13, AN34 IO_L18P_13, AP32 IO_L19N_13, E6 IO_L19P_12, E7 IO_L19N_12, F5 IO_L15P_12, F6 IO_L15N_12, G5 IO_L13N_12, G6 IO_L17P_12, G7 IO_L17N_12, H5 IO_L13P_12, H7 IO_L11P_CC_12, J5 IO_L8N_CC_12, J6 IO_L8P_CC_12, J7 IO_L11N_CC_12, K6 IO_L6N_12, K7 IO_L6P_12, L4 IO_L4P_12, L5 IO_L4N_VREF_12, L6 IO_L2N_12, M5 IO_L0N_12, M6 IO_L0P_12, M7 IO_L2P_12, M9 VCCO_12, N5 IO_L3P_12, N6 VCCO_12, N7 IO_L1N_12, N8 IO_L1P_12, P5 IO_L3N_12, P6 IO_L5N_12, P7 IO_L5P_12, P9 IO_L12N_VRP_12, P10 IO_L14N_VREF_12, R6 IO_L7P_12, R7 IO_L9P_CC_12, R8 IO_L9N_CC_12, R9 IO_L12P_VRN_12, R11 IO_L14P_12, T6 IO_L7N_12, T7 VCCO_12, T8 IO_L10P_CC_12, T9 IO_L18P_12, T10 IO_L16P_12, T11 IO_L16N_12, U7 IO_L10N_CC_12, U10 IO_L18N_12, V32 IO_L0P_SM8P_13, V33 IO_L0N_SM8N_13, V34 IO_L1N_SM7N_13, W28 VCCO_13, W32 IO_L4N_VREF_13, W34 IO_L1P_SM7P_13, Y32 IO_L4P_13, Y33 IO_L2P_SM6P_13, Y34 IO_L3N_SM5N_13
part C pins: AA29 IO_L11P_CC_17, AA30 IO_L11N_CC_17, AA31 IO_L9N_CC_17, AB30 IO_L10P_CC_17, AB31 IO_L9P_CC_17, AC29 IO_L13N_17, AC30 IO_L10N_CC_17, AD29 IO_L15N_17, AD30 IO_L13P_17, AD31 IO_L12P_VRN_17, AD33 VCCO_17, AE29 IO_L15P_17, AE30 VCCO_17, AE31 IO_L12N_VRP_17, AF29 IO_L17P_17, AF30 IO_L17N_17, AF31 IO_L14P_17, AG30 IO_L19N_17, AG31 IO_L14N_VREF_17, AH29 IO_L19P_17, AH30 IO_L18N_17, AH31 VCCO_17, AJ30 IO_L18P_17, AJ31 IO_L16P_17, AK31 IO_L16N_17, E29 IO_L0P_15, E31 IO_L3N_15, F29 IO_L0N_15, F30 IO_L1N_15, F31 IO_L3P_15, G30 IO_L1P_15, G31 IO_L5N_15, H29 IO_L2P_15, H30 IO_L5P_15, J29 IO_L2N_15, J30 IO_L6P_15, J31 IO_L6N_15, K29 IO_L4N_VREF_15, K31 IO_L9P_CC_15, L29 IO_L4P_15, L30 IO_L7P_15, L31 IO_L9N_CC_15, L32 VCCO_15, M29 VCCO_15, M30 IO_L7N_15, M31 IO_L11P_CC_15, N29 IO_L8P_CC_15, N30 IO_L11N_CC_15, P29 IO_L8N_CC_15, P30 IO_L10N_CC_15, P31 IO_L10P_CC_15, P33 VCCO_15, R26 IO_L17P_15, R27 IO_L17N_15, R28 IO_L12P_VRN_15, R29 IO_L12N_VRP_15, R31 IO_L13N_15, T25 IO_L19N_15, T26 IO_L18N_15, T28 IO_L15P_15, T29 IO_L15N_15, T30 IO_L14N_VREF_15, T31 IO_L13P_15, U25 IO_L19P_15, U26 IO_L18P_15, U27 IO_L16P_15, U28 IO_L16N_15, U30 IO_L14P_15, V24 IO_L0N_17, V25 IO_L2P_17, V27 IO_L5N_17, V28 IO_L5P_17, V29 IO_L7N_17, V30 IO_L4P_17, W24 IO_L0P_17, W25 IO_L2N_17, W26 IO_L1N_17, W27 IO_L3N_17, W29 IO_L7P_17, W30 IO_L4N_VREF_17, W31 IO_L6P_17, Y26 IO_L1P_17, Y27 IO_L3P_17, Y28 IO_L8P_CC_17, Y29 IO_L8N_CC_17, Y31 IO_L6N_17
part D pins: AA5 IO_L2P_18, AA6 IO_L6P_18, AB5 IO_L2N_18, AB6 IO_L1P_18, AB7 IO_L1N_18, AB9 VCCO_18, AC4 IO_L0P_18, AC5 IO_L0N_18, AC6 VCCO_18, AC7 IO_L3P_18, AD4 IO_L5P_18, AD5 IO_L5N_18, AD6 IO_L7P_18, AD7 IO_L3N_18, AE6 IO_L7N_18, AE7 IO_L9P_CC_18, AF5 IO_L10N_CC_18, AF6 IO_L9N_CC_18, AG5 IO_L10P_CC_18, AG6 IO_L12N_VRP_18, AG7 IO_L14N_VREF_18, AH5 IO_L12P_VRN_18, AH7 IO_L14P_18, AJ6 IO_L16N_18, AJ7 IO_L16P_18, AK6 IO_L18N_18, AK7 IO_L18P_18, E26 IO_L11P_CC_19, E27 IO_L11N_CC_19, E28 IO_L10P_CC_19, E30 VCCO_19, F25 IO_L7P_19, F26 IO_L7N_19, F28 IO_L10N_CC_19, G25 IO_L5P_19, G26 IO_L5N_19, G27 IO_L8P_CC_19, G28 IO_L9N_CC_19, H24 IO_L6N_19, H25 IO_L6P_19, H27 IO_L8N_CC_19, H28 IO_L9P_CC_19, H31 VCCO_19, J24 IO_L2P_19, J25 IO_L2N_19, J26 IO_L4N_VREF_19, J27 IO_L4P_19, J28 VCCO_19, K24 IO_L0P_19, K26 IO_L14N_VREF_19, K27 IO_L14P_19, K28 IO_L13P_19, L24 IO_L0N_19, L25 IO_L1P_19, L26 IO_L1N_19, L28 IO_L13N_19, M25 IO_L3P_19, M26 IO_L3N_19, M27 IO_L12N_VRP_19, M28 IO_L15P_19, N24 IO_L17P_19, N25 IO_L18N_19, N27 IO_L12P_VRN_19, N28 IO_L15N_19, P24 IO_L17N_19, P25 IO_L18P_19, P26 IO_L16P_19, P27 IO_L16N_19, R24 IO_L19P_19, T24 IO_L19N_19, U8 IO_L17N_18, V7 IO_L11N_CC_18, V8 IO_L17P_18, V9 IO_L19N_18, V10 IO_L19P_18, W6 IO_L8P_CC_18, W7 IO_L11P_CC_18, W8 VCCO_18, W9 IO_L15N_18, W10 IO_L15P_18, W11 IO_L13N_18, Y6 IO_L8N_CC_18, Y7 IO_L6N_18, Y8 IO_L4P_18, Y9 IO_L4N_VREF_18, Y11 IO_L13P_18
part E pins: A13 IO_L8P_CC_20, AD19 IO_L9N_D0_FS0_2, AD20 IO_L7N_D4_2, AE12 IO_L0N_CC_RS0_2, AE13 IO_L0P_CC_RS1_2, AE14 IO_L4P_FCS_B_2, AE16 IO_L6N_D6_2, AE17 IO_L8N_D2_FS2_2, AE19 IO_L9P_D1_FS1_2, AE21 IO_L7P_D5_2, AE22 IO_L3P_A21_2, AE23 IO_L3N_A20_2, AF13 IO_L2P_A23_2, AF14 IO_L4N_VREF_FOE_B_MOSI_2, AF15 IO_L6P_D7_2, AF16 IO_L8P_D3_2, AF20 IO_L5P_FWE_B_2, AF21 IO_L5N_CSO_B_2, AF23 IO_L1P_CC_A25_2, AG12 IO_L2N_A22_2, AG23 IO_L1N_CC_A24_2, AH21 VCCO_2, AM19 VCCO_2, B12 IO_L8N_CC_20, B13 IO_L11P_CC_20, C12 IO_L6N_20, C13 IO_L11N_CC_20, D10 IO_L4N_VREF_20, D11 IO_L4P_20, D12 IO_L6P_20, E8 IO_L0N_20, E9 IO_L0P_20, E10 VCCO_20, E11 IO_L15N_20, E12 IO_L17P_20, E13 IO_L17N_20, F8 IO_L1N_20, F9 IO_L1P_20, F10 IO_L2P_20, F11 IO_L15P_20, F13 IO_L19P_20, G8 IO_L3P_20, G10 IO_L2N_20, G11 IO_L13P_20, G12 IO_L13N_20, G13 IO_L19N_20, H8 IO_L3N_20, H9 IO_L7N_20, H10 IO_L7P_20, H11 VCCO_20, J8 VCCO_20, J9 IO_L9N_CC_20, J10 IO_L9P_CC_20, J11 IO_L5N_20, K8 IO_L10P_CC_20, K9 IO_L10N_CC_20, K11 IO_L5P_20, L8 IO_L14N_VREF_20, L9 IO_L16N_20, L10 IO_L12P_VRN_20, L11 IO_L12N_VRP_20, M8 IO_L14P_20, M10 IO_L16P_20, N9 IO_L18N_20, N10 IO_L18P_20
part F pins: AA8 IO_L3P_22, AA9 IO_L3N_22, AA10 IO_L1N_22, AA24 IO_L2N_21, AA25 IO_L0P_21, AA26 IO_L0N_21, AA28 IO_L5N_21, AB8 IO_L5N_22, AB10 IO_L1P_22, AB25 IO_L3P_21, AB26 IO_L3N_21, AB27 IO_L1P_21, AB28 IO_L5P_21, AC8 IO_L5P_22, AC9 IO_L7N_22, AC10 IO_L7P_22, AC24 IO_L17N_21, AC25 IO_L17P_21, AC27 IO_L1N_21, AC28 IO_L4P_21, AD9 IO_L9N_CC_22, AD10 IO_L10P_CC_22, AD11 IO_L10N_CC_22, AD24 IO_L19P_21, AD25 IO_L18N_21, AD26 IO_L18P_21, AD27 IO_L4N_VREF_21, AE8 IO_L9P_CC_22, AE9 IO_L12N_VRP_22, AE11 IO_L16N_22, AE24 IO_L19N_21, AE26 IO_L16N_21, AE27 IO_L16P_21, AE28 IO_L7P_21, AF7 VCCO_22, AF8 IO_L12P_VRN_22, AF9 IO_L14P_22, AF10 IO_L14N_VREF_22, AF11 IO_L16P_22, AF24 IO_L13P_21, AF25 IO_L15P_21, AF26 IO_L15N_21, AF28 IO_L7N_21, AG8 IO_L18P_22, AG10 IO_L19P_22, AG11 IO_L19N_22, AG25 IO_L13N_21, AG26 IO_L14N_VREF_21, AG27 IO_L14P_21, AG28 IO_L6P_21, AH8 IO_L18N_22, AH9 IO_L17P_22, AH10 IO_L17N_22, AH11 VCCO_22, AH25 IO_L12N_VRP_21, AH27 IO_L11P_CC_21, AH28 IO_L6N_21, AJ8 VCCO_22, AJ9 IO_L15P_22, AJ10 IO_L15N_22, AJ11 IO_L11N_CC_22, AJ25 IO_L12P_VRN_21, AJ26 IO_L11N_CC_21, AJ27 IO_L8N_CC_21, AJ28 VCCO_21, AJ29 IO_L9N_CC_21, AK8 IO_L13P_22, AK9 IO_L13N_22, AK11 IO_L11P_CC_22, AK26 IO_L8P_CC_21, AK27 IO_L10N_CC_21, AK28 IO_L10P_CC_21, AK29 IO_L9P_CC_21, AL10 IO_L8N_CC_22, AL11 IO_L8P_CC_22, AL32 VCCO_21, AM11 IO_L6N_22, AM12 IO_L6P_22, AM13 IO_L2N_22, AM29 VCCO_21, AN12 IO_L4N_VREF_22, AN13 IO_L2P_22, AN14 IO_L0P_22, AP12 IO_L4P_22, AP14 IO_L0N_22, Y24 IO_L2P_21
part G pins: A18 IO_L4N_VREF_23, A19 IO_L6P_23, A20 IO_L6N_23, A21 IO_L1N_23, A23 IO_L7P_23, A24 IO_L7N_23, A25 IO_L9N_CC_23, A26 IO_L10N_CC_23, A28 IO_L14N_VREF_23, A29 IO_L14P_23, A30 IO_L19P_23, A31 IO_L16N_23, AK25 VCCO_25, AL22 VCCO_25, AL24 IO_L11N_CC_25, AL25 IO_L11P_CC_25, AL26 IO_L9N_CC_25, AL28 IO_L4N_VREF_25, AL29 IO_L0P_25, AL30 IO_L0N_25, AL31 IO_L1N_25, AM18 IO_L17N_25, AM20 IO_L13N_25, AM21 IO_L13P_25, AM22 IO_L16N_25, AM23 IO_L14N_VREF_25, AM25 IO_L8N_CC_25, AM26 IO_L9P_CC_25, AM27 IO_L4P_25, AM28 IO_L7N_25, AM30 IO_L2N_25, AM31 IO_L1P_25, AN18 IO_L17P_25, AN19 IO_L19P_25, AN20 IO_L15P_25, AN22 IO_L16P_25, AN23 IO_L14P_25, AN24 IO_L12P_VRN_25, AN25 IO_L8P_CC_25, AN26 VCCO_25, AN27 IO_L6N_25, AN28 IO_L7P_25, AN29 IO_L5N_25, AN30 IO_L2P_25, AP19 IO_L19N_25, AP20 IO_L15N_25, AP21 IO_L18N_25, AP22 IO_L18P_25, AP24 IO_L12N_VRP_25, AP25 IO_L10N_CC_25, AP26 IO_L10P_CC_25, AP27 IO_L6P_25, AP29 IO_L5P_25, AP30 IO_L3P_25, AP31 IO_L3N_25, B18 IO_L4P_23, B20 IO_L0N_23, B21 IO_L1P_23, B22 IO_L3N_23, B23 IO_L5N_23, B25 IO_L11P_CC_23, B26 IO_L9P_CC_23, B27 IO_L10P_CC_23, B28 IO_L12N_VRP_23, B30 IO_L19N_23, B31 IO_L16P_23, C18 IO_L2N_23, C19 IO_L2P_23, C20 IO_L0P_23, C22 IO_L3P_23, C23 IO_L5P_23, C24 IO_L8P_CC_23, C25 IO_L11N_CC_23, C26 VCCO_23, C27 IO_L13N_23, C28 IO_L15P_23, C29 IO_L12P_VRN_23, C30 IO_L17P_23, D25 IO_L8N_CC_23, D26 IO_L13P_23, D27 IO_L15N_23, D29 IO_L17N_23, D30 IO_L18N_23, D31 IO_L18P_23, F27 VCCO_23, G24 VCCO_23
part H pins: AE18 IO_L8N_CC_GC_4, AF18 IO_L8P_CC_GC_4, AF19 IO_L6N_GC_4, AG13 IO_L1N_GC_D12_4, AG14 VCCO_4, AG15 IO_L5N_GC_4, AG16 IO_L7N_GC_VRP_4, AG17 IO_L9N_CC_GC_4, AG18 IO_L6P_GC_4, AG20 IO_L4N_GC_VREF_4, AG21 IO_L4P_GC_4, AG22 IO_L0P_GC_D15_4, AH12 IO_L1P_GC_D13_4, AH13 IO_L3N_GC_D8_4, AH14 IO_L3P_GC_D9_4, AH15 IO_L5P_GC_4, AH17 IO_L7P_GC_VRN_4, AH18 IO_L9P_CC_GC_4, AH19 IO_L2N_GC_D10_4, AH20 IO_L2P_GC_D11_4, AH22 IO_L0N_GC_D14_4, AL12 VCCO_4, D23 VCCO_3, E20 VCCO_3, G15 IO_L2P_GC_VRN_3, G16 IO_L2N_GC_VRP_3, H13 IO_L8N_GC_3, H14 IO_L6P_GC_3, H15 IO_L6N_GC_3, H17 IO_L0P_CC_GC_3, H18 IO_L0N_CC_GC_3, H19 IO_L9P_GC_3, H20 IO_L9N_GC_3, J14 IO_L8P_GC_3, J16 IO_L4P_GC_3, J17 IO_L4N_GC_VREF_3, J19 IO_L3N_GC_3, J20 IO_L7P_GC_3, J21 IO_L7N_GC_3, K17 IO_L1P_CC_GC_3, K18 IO_L3P_GC_3, K19 IO_L5N_GC_3, L18 IO_L1N_CC_GC_3, L19 IO_L5P_GC_3
part I pins: A14 IO_L1N_5, A15 IO_L1P_5, A16 IO_L2N_5, AH23 IO_L2P_6, AH24 IO_L0P_6, AJ12 IO_L1N_6, AJ14 IO_L5P_6, AJ15 IO_L9N_CC_6, AJ16 IO_L9P_CC_6, AJ17 IO_L12N_VRP_6, AJ18 VCCO_6, AJ19 IO_L15P_6, AJ20 IO_L8N_CC_6, AJ21 IO_L8P_CC_6, AJ22 IO_L2N_6, AJ24 IO_L0N_6, AK12 IO_L1P_6, AK13 IO_L3N_6, AK14 IO_L5N_6, AK15 VCCO_6, AK16 IO_L10P_CC_6, AK17 IO_L12P_VRN_6, AK18 IO_L14P_6, AK19 IO_L15N_6, AK21 IO_L11N_CC_6, AK22 IO_L6N_6, AK23 IO_L6P_6, AK24 IO_L4P_6, AL13 IO_L3P_6, AL14 IO_L7N_6, AL15 IO_L7P_6, AL16 IO_L10N_CC_6, AL18 IO_L14N_VREF_6, AL19 IO_L13P_6, AL20 IO_L13N_6, AL21 IO_L11P_CC_6, AL23 IO_L4N_VREF_6, AM15 IO_L16P_6, AM16 IO_L16N_6, AM17 IO_L19P_6, AN15 IO_L18P_6, AN16 VCCO_6, AN17 IO_L19N_6, AP15 IO_L18N_6, AP16 IO_L17P_6, AP17 IO_L17N_6, B15 IO_L0N_5, B16 IO_L0P_5, B17 IO_L2P_5, B19 VCCO_5, C14 IO_L3P_5, C15 IO_L3N_5, C16 VCCO_5, C17 IO_L5P_5, D14 IO_L9P_CC_5, D15 IO_L7N_5, D16 IO_L7P_5, D17 IO_L5N_5, D19 IO_L12N_VRP_5, D20 IO_L6N_5, D21 IO_L13P_5, D22 IO_L13N_5, D24 IO_L17P_5, E14 IO_L9N_CC_5, E16 IO_L10N_CC_5, E17 IO_L10P_CC_5, E18 IO_L12P_VRN_5, E19 IO_L4P_5, E21 IO_L6P_5, E22 IO_L15P_5, E23 IO_L17N_5, E24 IO_L19N_5, F14 IO_L18P_5, F15 IO_L18N_5, F16 IO_L16N_5, F17 VCCO_5, F18 IO_L14P_5, F19 IO_L4N_VREF_5, F20 IO_L8N_CC_5, F21 IO_L11P_CC_5, F23 IO_L15N_5, F24 IO_L19P_5, G17 IO_L16P_5, G18 IO_L14N_VREF_5, G20 IO_L8P_CC_5, G21 IO_L11N_CC_5
part J pins: AA1 MGTRXN1_114, AB1 MGTRXP1_114, AB2 MGTTXN1_114, AC2 MGTTXP1_114, M2 MGTTXP0_112, N1 MGTRXP0_112, N2 MGTTXN0_112, P1 MGTRXN0_112, P3 MGTREFCLKN_112, P4 MGTREFCLKP_112, R1 MGTRXN1_112, T1 MGTRXP1_112, T2 MGTTXN1_112, U2 MGTTXP1_112, V2 MGTTXP0_114, W1 MGTRXP0_114, W2 MGTTXN0_114, Y1 MGTRXN0_114, Y3 MGTREFCLKN_114, Y4 MGTREFCLKP_114
part K pins: AD2 MGTTXP0_118, AE1 MGTRXP0_118, AE2 MGTTXN0_118, AF1 MGTRXN0_118, AF3 MGTREFCLKN_118, AF4 MGTREFCLKP_118, AG1 MGTRXN1_118, AH1 MGTRXP1_118, AH2 MGTTXN1_118, AJ2 MGTTXP1_118, F2 MGTTXP0_116, G1 MGTRXP0_116, G2 MGTTXN0_116, H1 MGTRXN0_116, H3 MGTREFCLKN_116, H4 MGTREFCLKP_116, J1 MGTRXN1_116, K1 MGTRXP1_116, K2 MGTTXN1_116, L2 MGTTXP1_116
part L pins: A2 MGTRXN0_120, A3 MGTRXP0_120, AK2 MGTTXP0_122, AL1 MGTRXP0_122, AL2 MGTTXN0_122, AL4 MGTREFCLKN_122, AL5 MGTREFCLKP_122, AM1 MGTRXN0_122, AN3 MGTTXN1_122, AN4 MGTTXP1_122, AP2 MGTRXN1_122, AP3 MGTRXP1_122, B3 MGTTXN0_120, B4 MGTTXP0_120, C1 MGTRXN1_120, D1 MGTRXP1_120, D2 MGTTXN1_120, D4 MGTREFCLKN_120, E2 MGTTXP1_120, E4 MGTREFCLKP_120
part M pins: A6 MGTRXP1_124, A7 MGTRXN1_124, A8 MGTRXN0_124, A9 MGTRXP0_124, AL7 MGTREFCLKP_126, AM7 MGTREFCLKN_126, AN5 MGTTXP0_126, AN6 MGTTXN0_126, AN9 MGTTXN1_126, AN10 MGTTXP1_126, AP6 MGTRXP0_126, AP7 MGTRXN0_126, AP8 MGTRXN1_126, AP9 MGTRXP1_126, B5 MGTTXP1_124, B6 MGTTXN1_124, B9 MGTTXN0_124, B10 MGTTXP0_124, C8 MGTREFCLKN_124, D8 MGTREFCLKP_124
part N pins: AA3 MGTAVCC_114, AA4 MGTAVCC_114, AB3 MGTAVCCPLL_114, AC3 MGTAVTTTX_114, AD3 MGTAVTTTX_118, AE3 MGTAVTTRX_118, AG3 MGTAVCC_118, AG4 MGTAVCC_118, AH3 MGTAVCCPLL_118, AJ3 MGTAVTTTX_118, AJ4 MGTAVCC_122, AK3 MGTAVTTTX_122, AK5 MGTAVCC_122, AL3 MGTAVTTRX_122, AL8 MGTAVCC_126, AM3 MGTAVTTTX_122, AM4 MGTAVCCPLL_122, AM5 MGTAVTTTX_126, AM6 MGTAVTTRX_126, AM8 MGTAVCC_126, AM9 MGTAVCCPLL_126, AM10 MGTAVTTTX_126, C3 MGTAVTTRX_120, C4 MGTAVTTTX_120, C5 MGTAVTTTX_124, C6 MGTAVCCPLL_124, C7 MGTAVCC_124, C9 MGTAVTTRX_124, C10 MGTAVTTTX_124, D3 MGTAVCCPLL_120, D5 MGTAVCC_120, D7 MGTAVCC_124, E3 MGTAVTTTX_120, F3 MGTAVTTTX_116, F4 MGTAVCC_120, G3 MGTAVTTRX_116, J3 MGTAVCC_116, J4 MGTAVCC_116, K3 MGTAVCCPLL_116, L3 MGTAVTTTX_116, M3 MGTAVTTTX_112, N3 MGTAVTTRX_112, R3 MGTAVCC_112, R4 MGTAVCC_112, T3 MGTAVCCPLL_112, U3 MGTAVTTTX_112, V3 MGTAVTTTX_114, V4 MGTRREF_112, V5 MGTAVTTRXC, W3 MGTAVTTRX_114
part O pins: AA22 VCCO_0, AB15 TCK_0, AC14 TMS_0, AC15 TDI_0, AC22 M1_0, AD14 TDO_0, AD15 D_OUT_BUSY_0, AD21 M0_0, AD22 M2_0, AD23 VCCO_0, M15 DONE_0, M22 PROGRAM_B_0, M23 HSWAPEN_0, N14 INIT_B_0, N15 CCLK_0, N22 CS_B_0, N23 RDWR_B_0, P15 D_IN_0, U17 VREFN_0, U18 VP_0, V17 VN_0, V18 VREFP_0, W17 DXN_0, W18 DXP_0
part P pins: A11 GND, A12 GND, A17 GND, A22 GND, A27 GND, A32 GND, AA12 VCCINT, AA14 VCCINT, AA16 VCCINT, AA18 VCCINT, AA20 VCCINT, AB11 VCCAUX, AB13 VCCINT, AB17 VCCINT, AB19 VCCINT, AB21 VCCINT, AC12 VCCAUX, AC16 VCCINT, AC18 VCCINT, AC20 VCCINT, AD13 VCCINT, AD17 VCCINT, B1 GND, B2 GND, B7 GND, B8 GND, B11 GND, B14 GND, B24 GND, B29 GND, B34 GND, C2 GND, C11 GND, C21 GND, C31 GND, D6 GND, D9 GND, D18 GND, D28 GND, D33 GND, E5 GND, E15 GND, E25 GND, F7 GND, F12 GND, F22 GND, F32 GND, G4 GND, G9 GND, G19 GND, G29 GND, G34 GND, H2 GND, H6 GND, H16 GND, H21 GND, H26 GND, J2 GND, J13 GND, J18 GND, J23 GND, J33 GND, K4 GND, K5 GND, K10 GND, K15 GND, K20 GND, K25 GND, K30 GND, L7 GND, L12 VCCAUX, L13 GND, L17 GND, L22 GND, L23 VBATT_0, L27 GND, M4 GND, M11 VCCAUX, M12 GND, M13 VCCINT, M14 GND, M16 GND, M17 VCCINT, M18 GND, M19 VCCINT, M20 GND, M21 VCCAUX, M24 GND, M34 GND, N4 GND, N11 GND, N12 VCCINT, N13 GND, N16 VCCINT, N17 GND, N18 VCCINT, N19 GND, N20 VCCINT, N21 GND, N26 GND, N31 GND, P2 GND, P8 GND, P11 VCCAUX, P12 GND, P13 VCCINT, P14 GND, P16 GND, P17 VCCINT, P18 GND, P19 VCCINT, P20 GND, P21 VCCINT, P22 GND, P23 VCCAUX, P28 GND, R2 GND, R5 GND, R10 GND, R12 VCCINT, R13 GND, R14 VCCINT, R15 GND, R16 VCCINT, R17 GND, R18 VCCINT, R19 GND, R20 VCCINT, R21 GND, R22 VCCINT, R23 GND, R25 GND, T4 GND, T5 GND, T12 GND, T13 VCCINT, T14 GND, T15 VCCINT, T16 GND, T17 AVSS_0, T18 AVDD_0, T19 VCCINT, T20 GND, T21 VCCINT, T22 GND, T23 VCCAUX, U12 VCCINT, U14 VCCINT, U16 VCCINT, U20 VCCINT, U22 VCCINT, U24 VCCAUX, V11 VCCAUX, V13 VCCINT, V15 VCCINT, V19 VCCINT, V21 VCCINT, V23 VCCAUX, W12 VCCINT, W14 VCCINT, W16 VCCINT, W20 VCCINT, W22 VCCINT, Y13 VCCINT, Y15 VCCINT, Y17 VCCINT, Y19 VCCINT, Y21 VCCINT, Y23 VCCAUX
part Q pins: AA2 GND, AA7 GND, AA11 GND, AA13 GND, AA15 GND, AA17 GND, AA19 GND, AA21 GND, AA23 GND, AA27 GND, AB4 GND, AB12 GND, AB14 GND, AB16 GND, AB18 GND, AB20 GND, AB22 GND, AB24 GND, AB34 GND, AC11 GND, AC13 GND, AC17 GND, AC19 GND, AC21 GND, AC26 GND, AC31 GND, AD8 GND, AD12 GND, AD16 GND, AD18 GND, AD28 GND, AE4 GND, AE5 GND, AE10 GND, AE15 GND, AE20 GND, AE25 GND, AF2 GND, AF12 GND, AF17 GND, AF22 GND, AF27 GND, AF32 GND, AG2 GND, AG9 GND, AG19 GND, AG24 GND, AG29 GND, AG34 GND, AH4 GND, AH6 GND, AH16 GND, AH26 GND, AJ5 GND, AJ13 GND, AJ23 GND, AJ33 GND, AK4 GND, AK10 GND, AK20 GND, AK30 GND, AL6 GND, AL9 GND, AL17 GND, AL27 GND, AM2 GND, AM14 GND, AM24 GND, AM34 GND, AN1 GND, AN2 GND, AN7 GND, AN8 GND, AN11 GND, AN21 GND, AN31 GND, AP11 GND, AP13 GND, AP18 GND, AP23 GND, AP28 GND, AP33 GND, T32 GND, U6 GND, U9 GND, U11 GND, U13 GND, U15 GND, U19 GND, U21 GND, U23 GND, U29 GND, U34 GND, V6 GND, V12 GND, V14 GND, V16 GND, V20 GND, V22 GND, V26 GND, W4 GND, W5 GND, W13 GND, W15 GND, W19 GND, W21 GND, W23 GND, W33 GND, Y2 GND, Y5 GND, Y10 GND, Y12 GND, Y14 GND, Y16 GND, Y18 GND, Y20 GND, Y22 GND, Y25 GND, Y30 GND

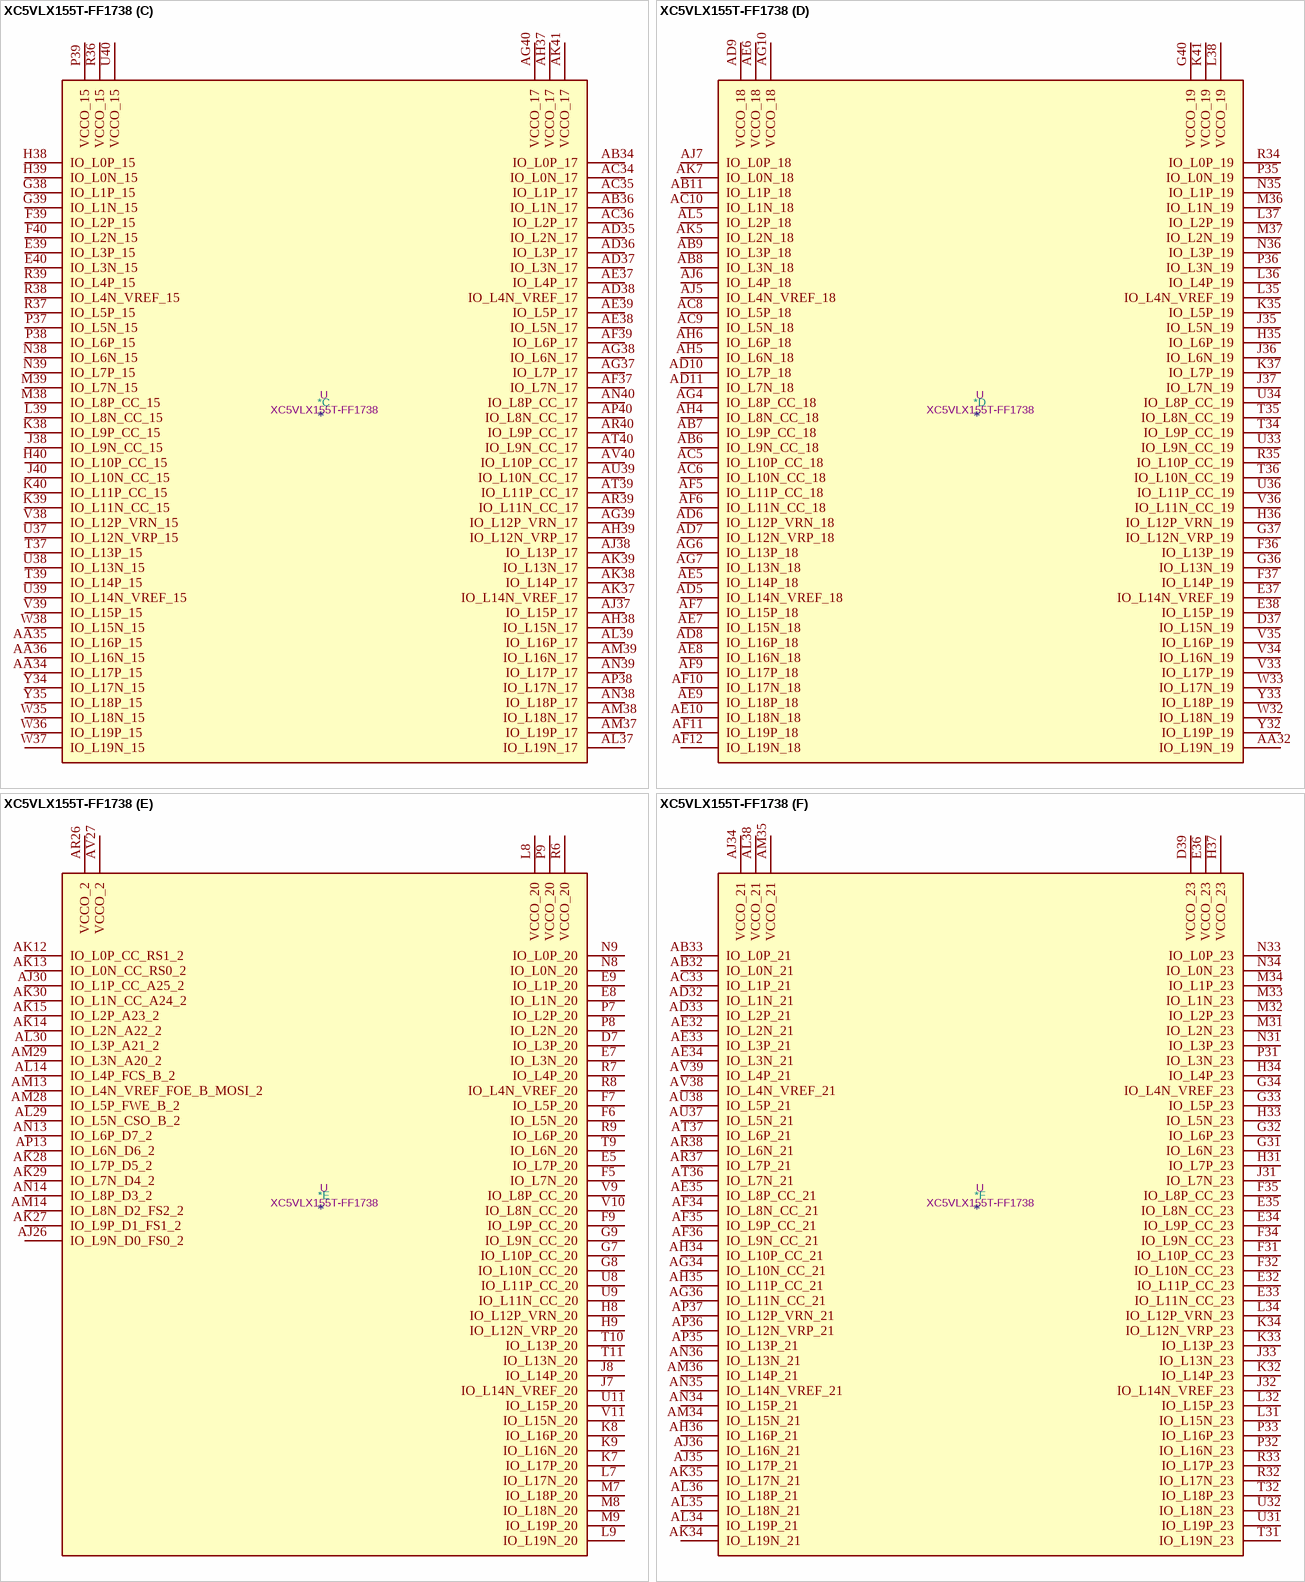
[diagram p86: symbol XC5VLX155T-FF1738]

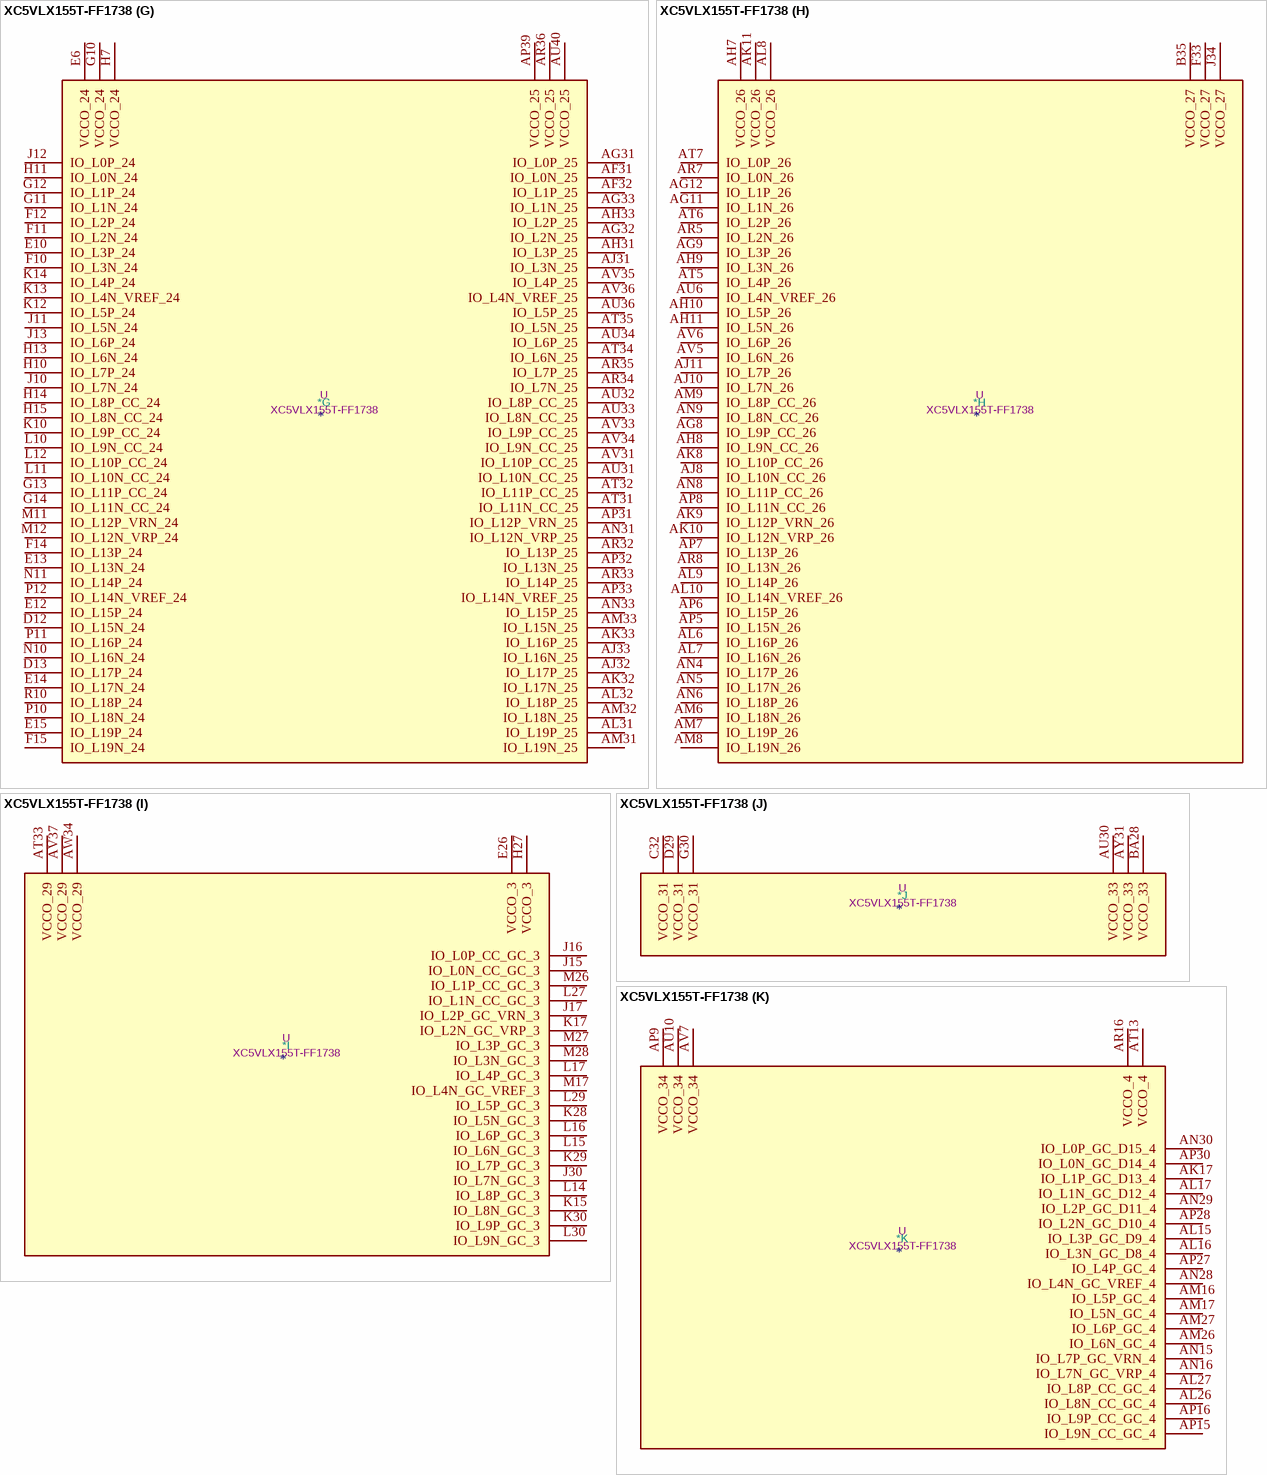
[diagram p87: symbol XC5VLX155T-FF1738]

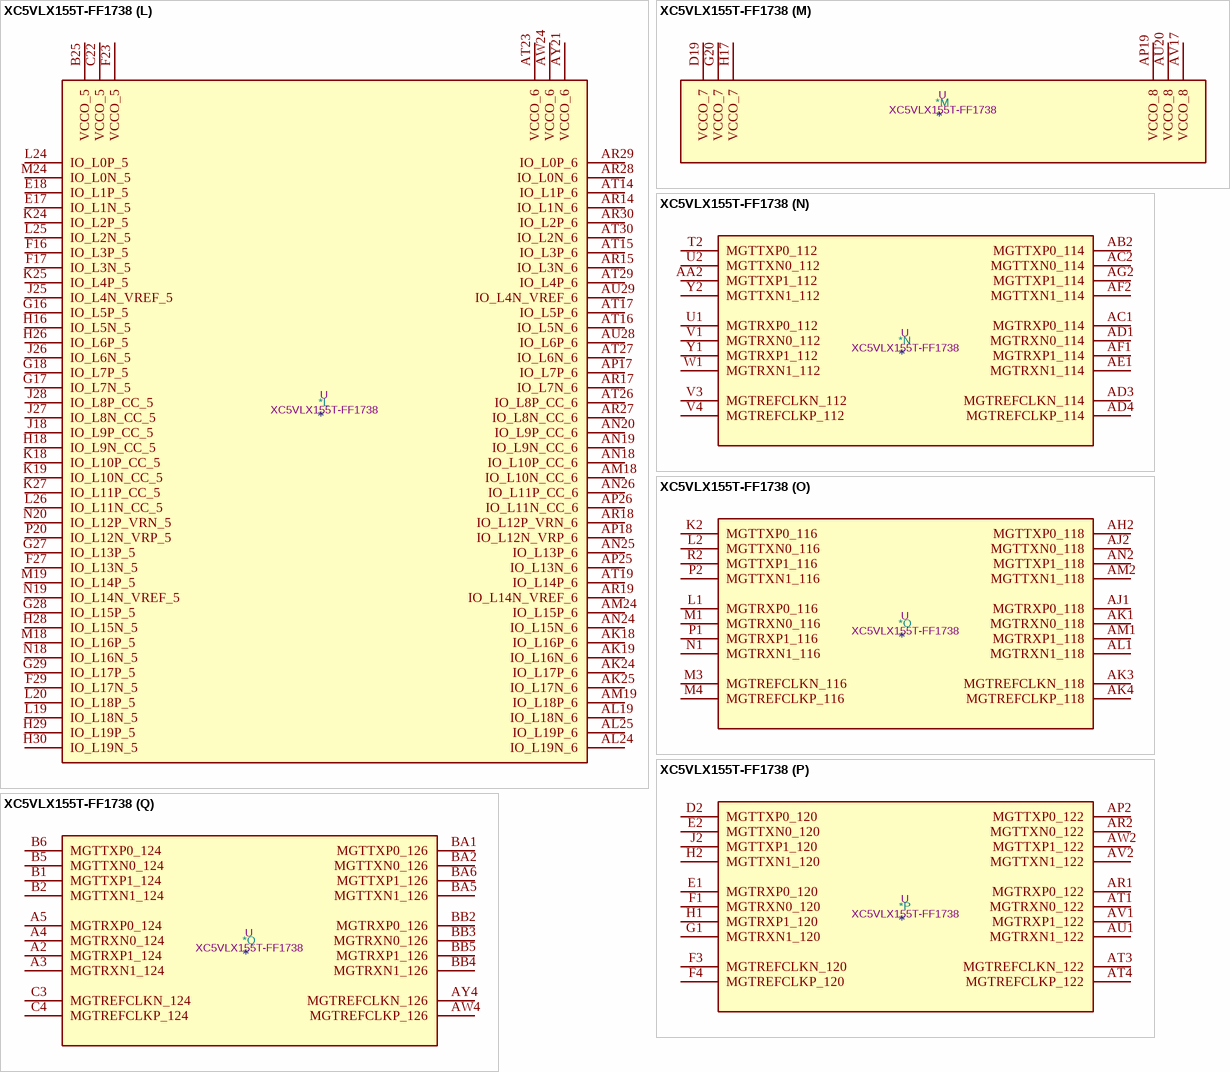
[diagram p88: symbol XC5VLX155T-FF1738]

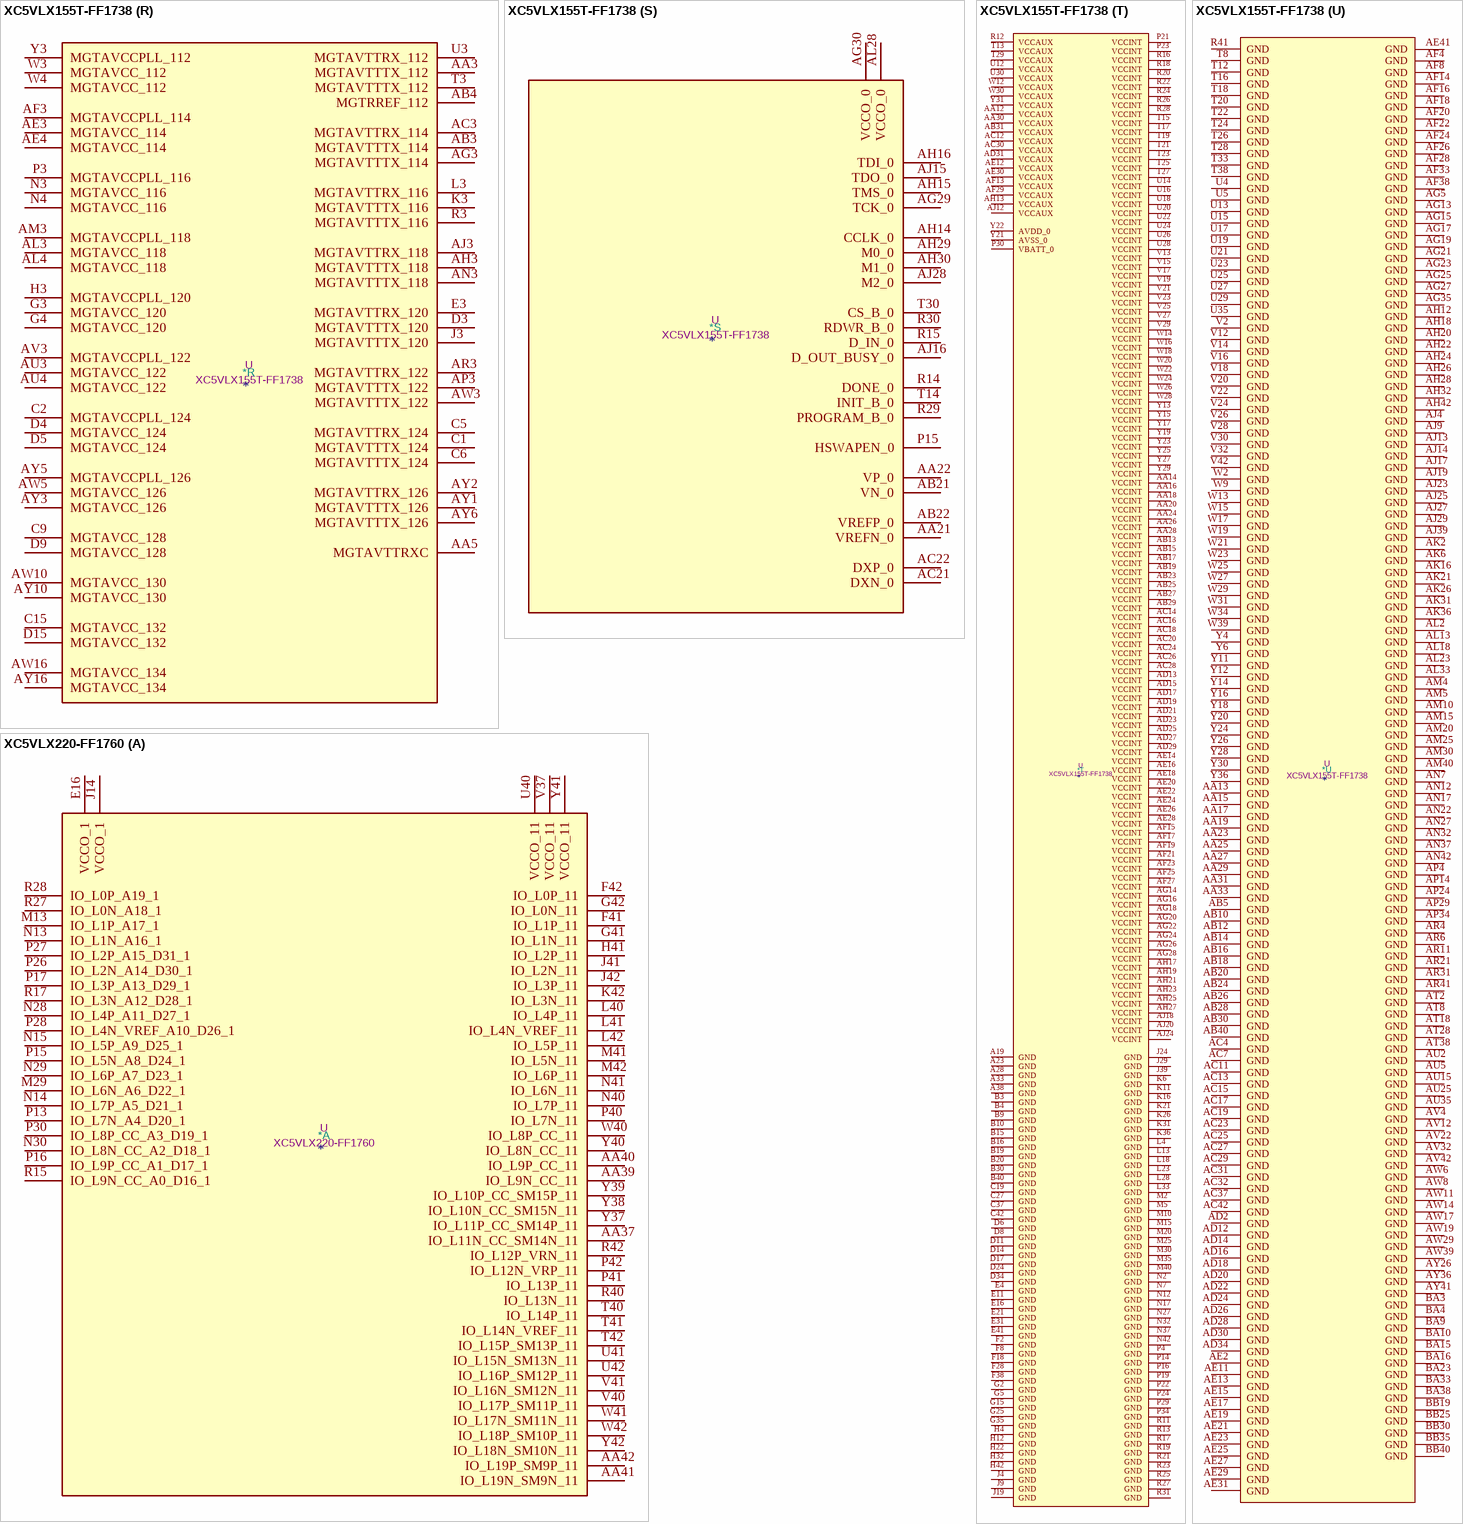
[diagram p89: symbols XC5VLX155T-FF1738 to XC5VLX220-FF1760]